# Altium schematic symbol library urover.SCHLIB: 209 symbols
Pins are listed as number, name and electrical type; pins without a type are passive.

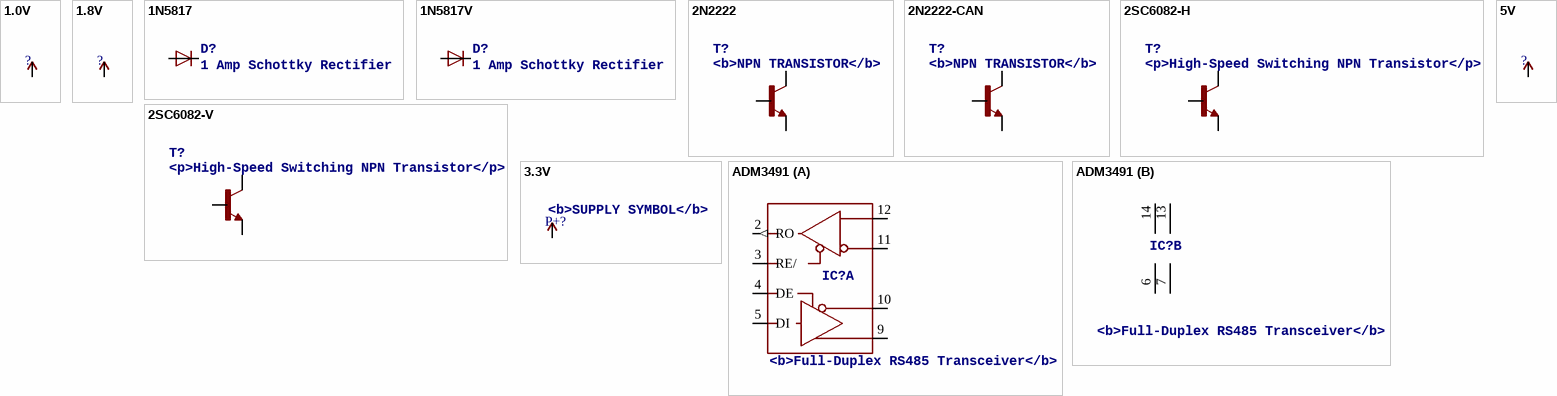
[diagram p0: symbols 1.0V to ADM3491]

## 1.0V
designator ?
pins: 1.0V (oe)

## 1.8V
designator ?
pins: 1.8V (oe)

## 1N5817
designator D?, comment 1 Amp Schottky Rectifier
footprint DO41-10
pins: A, C

## 1N5817V
designator D?, comment 1 Amp Schottky Rectifier
footprint DO41-V
pins: A, C

## 2N2222
designator T?, comment <b>NPN TRANSISTOR</b>
footprint TO92
pins: 1 C, 2 B, 3 E

## 2N2222-CAN
designator T?, comment <b>NPN TRANSISTOR</b>
footprint TO18
pins: 1 E, 2 B, 3 C

## 2SC6082-H
designator T?, comment <p>High-Speed Switching NPN Transistor</p>
footprint TO220BH
pins: D@1 C, G B, S E

## 2SC6082-V
designator T?, comment <p>High-Speed Switching NPN Transistor</p>
footprint TO220BV
pins: D C, G B, S E

## 3.3V
designator P+?, comment <b>SUPPLY SYMBOL</b>
pins: 3.3V (oe)

## 5V
designator ?
pins: 5V (oe)

## ADM3491
designator IC?, comment <b>Full-Duplex RS485 Transceiver</b>
footprint SO14
part A pins: 2 RO (out), 3 RE/, 4 DE, 5 DI, 9 Y, 10 Z, 11 B, 12 A
part B pins: 6 GND (power), 7 GND (power), 13 VCC (power), 14 VCC (power)

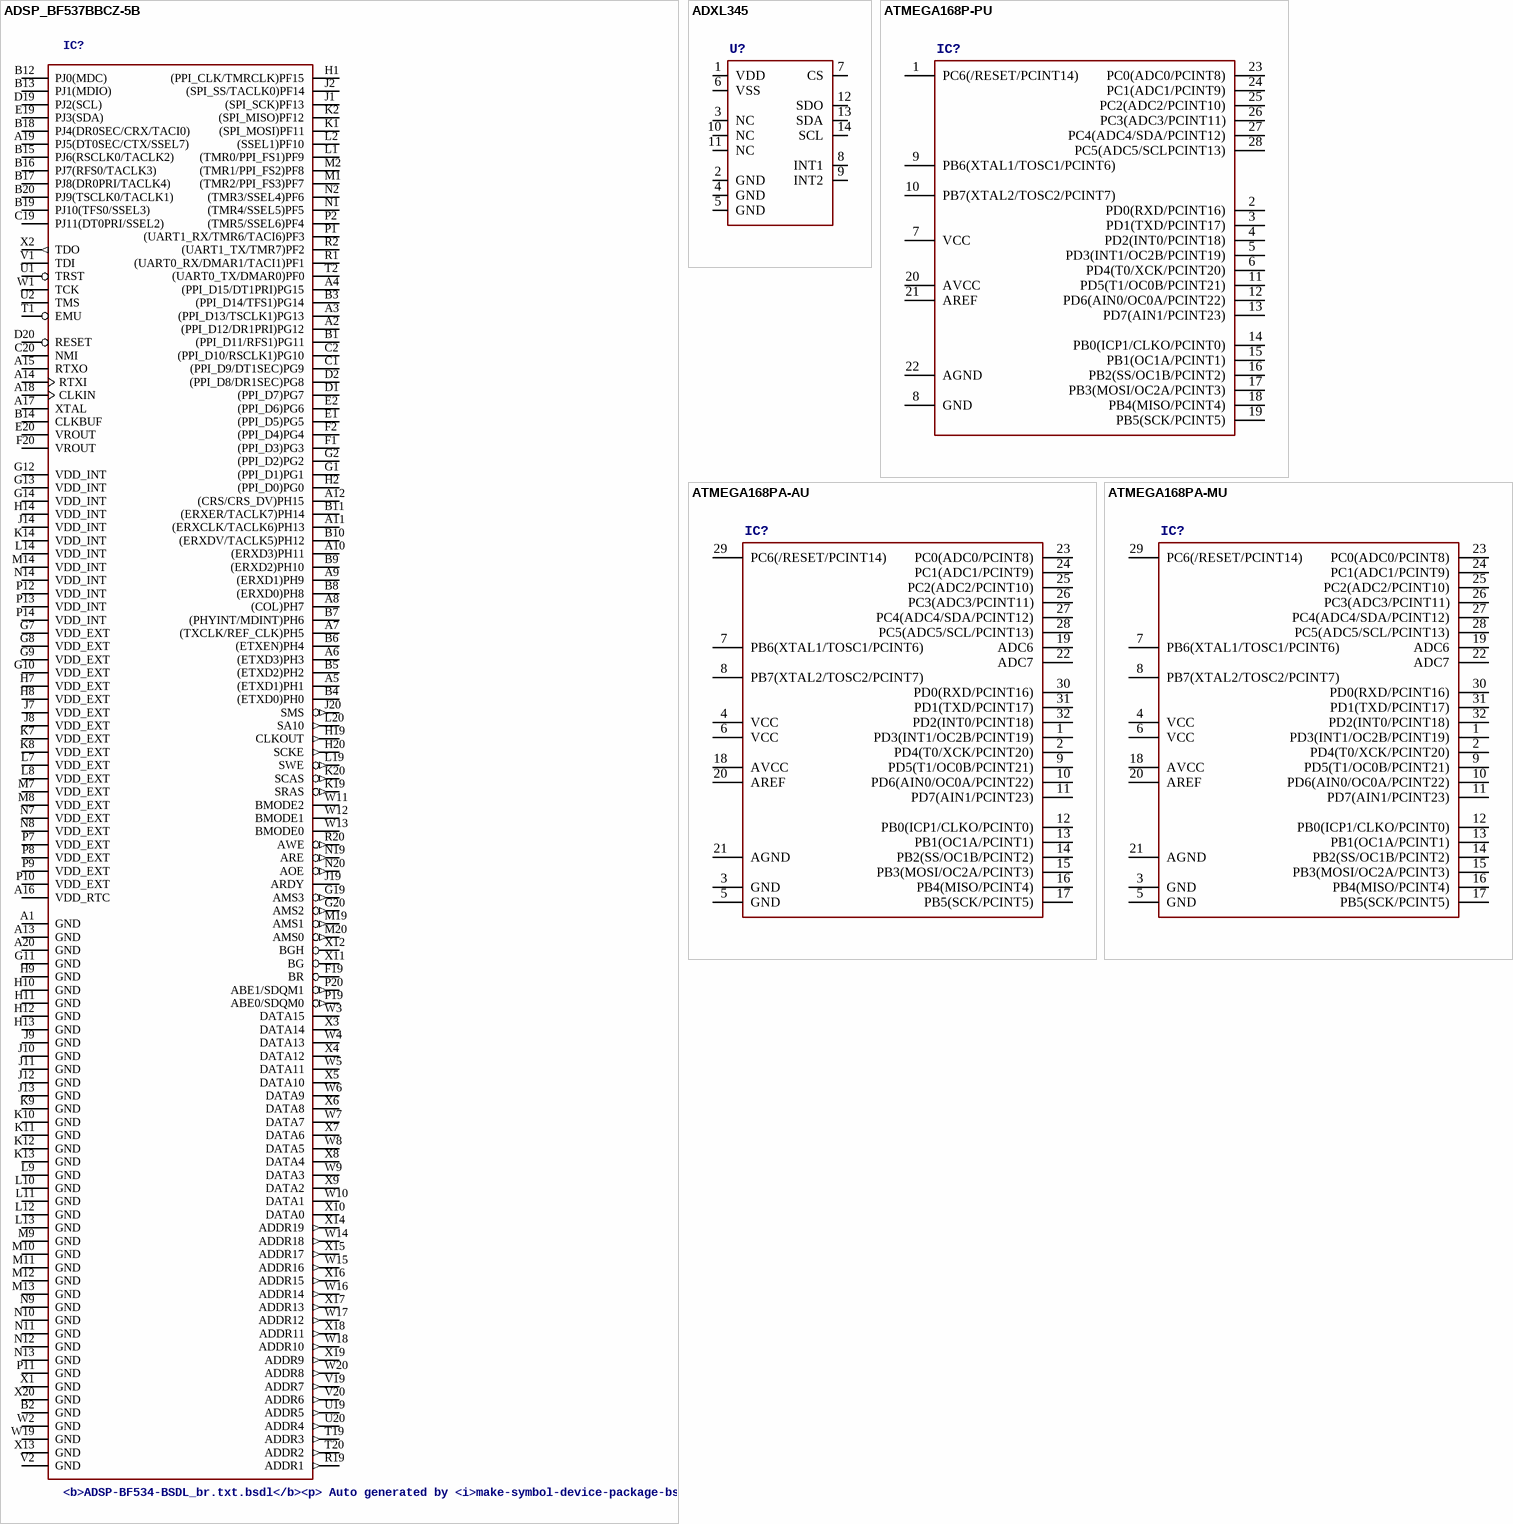
[diagram p1: symbols ADSP_BF537BBCZ-5B to ATMEGA168PA-MU]

## ADSP_BF537BBCZ-5B
designator IC?, comment <b>ADSP-BF534-BSDL_br.txt.bsdl</b><p> / Auto generated by <i>make-symbol-device-package-bsdl.ulp Rev. 8</i><br> / Source: http://www.analog.com/UploadedFiles/Data_Sheets/90140778ADSP_BF536_7_prd.pdf<br> / Source2: BSDL_br.txt as Email: &lt;adi-germany@analog.com&gt;
footprint BGA_208
pins: A1 GND (power), A2 (PPI_D12/DR1PRI)PG12, A3 (PPI_D13/TSCLK1)PG13, A4 (PPI_D15/DT1PRI)PG15, A5 (ETXD1)PH1, A6 (ETXD3)PH3, A7 (TXCLK/REF_CLK)PH5, A8 (COL)PH7, A9 (ERXD1)PH9, A10 (ERXD3)PH11, A11 (ERXCLK/TACLK6)PH13, A12 (CRS/CRS_DV)PH15, A13 GND (power), A14 RTXI (power), A15 RTXO (power), A16 VDD_RTC (power), A17 XTAL (power), A18 CLKIN (power), A19 PJ5(DT0SEC/CTX/SSEL7), A20 GND (power), B1 (PPI_D11/RFS1)PG11, B2 GND (power), B3 (PPI_D14/TFS1)PG14, B4 (ETXD0)PH0, B5 (ETXD2)PH2, B6 (ETXEN)PH4, B7 (PHYINT/MDINT)PH6, B8 (ERXD0)PH8, B9 (ERXD2)PH10, B10 (ERXDV/TACLK5)PH12, B11 (ERXER/TACLK7)PH14, B12 PJ0(MDC), B13 PJ1(MDIO), B14 CLKBUF (power), B15 PJ6(RSCLK0/TACLK2), B16 PJ7(RFS0/TACLK3), B17 PJ8(DR0PRI/TACLK4), B18 PJ4(DR0SEC/CRX/TACI0), B19 PJ10(TFS0/SSEL3), B20 PJ9(TSCLK0/TACLK1), C1 (PPI_D9/DT1SEC)PG9, C2 (PPI_D10/RSCLK1)PG10, C19 PJ11(DT0PRI/SSEL2), C20 NMI, D1 (PPI_D7)PG7, D2 (PPI_D8/DR1SEC)PG8, D19 PJ2(SCL), D20 RESET, E1 (PPI_D5)PG5, E2 (PPI_D6)PG6, E19 PJ3(SDA), E20 VROUT (power), F1 (PPI_D3)PG3, F2 (PPI_D4)PG4, F19 BR, F20 VROUT (power), G1 (PPI_D1)PG1, G2 (PPI_D2)PG2, G7 VDD_EXT (power), G8 VDD_EXT (power), G9 VDD_EXT (power), G10 VDD_EXT (power), G11 GND (power), G12 VDD_INT (power), G13 VDD_INT (power), G14 VDD_INT (power), G19 AMS3 (out), G20 AMS2 (out), H1 (PPI_CLK/TMRCLK)PF15, H2 (PPI_D0)PG0, H7 VDD_EXT (power), H8 VDD_EXT (power), H9 GND (power), H10 GND (power), H11 GND (power), H12 GND (power), H13 GND (power), H14 VDD_INT (power), H19 CLKOUT (out), H20 SCKE (out), J1 (SPI_SCK)PF13, J2 (SPI_SS/TACLK0)PF14, J7 VDD_EXT (power), J8 VDD_EXT (power), J9 GND (power), J10 GND (power), J11 GND (power), J12 GND (power), J13 GND (power), J14 VDD_INT (power), J19 ARDY, J20 SMS (out), K1 (SPI_MOSI)PF11, K2 (SPI_MISO)PF12, K7 VDD_EXT (power), K8 VDD_EXT (power), K9 GND (power), K10 GND (power), K11 GND (power), K12 GND (power), K13 GND (power), K14 VDD_INT (power), K19 SRAS (out), K20 SCAS (out), L1 (TMR0/PPI_FS1)PF9, L2 (SSEL1)PF10, L7 VDD_EXT (power), L8 VDD_EXT (power), L9 GND (power), L10 GND (power), L11 GND (power), L12 GND (power), L13 GND (power), L14 VDD_INT (power), L19 SWE (out), L20 SA10 (out), M1 (TMR2/PPI_FS3)PF7, M2 (TMR1/PPI_FS2)PF8, M7 VDD_EXT (power), M8 VDD_EXT (power), M9 GND (power), M10 GND (power), M11 GND (power), M12 GND (power), M13 GND (power), M14 VDD_INT (power), M19 AMS1 (out), M20 AMS0 (out), N1 (TMR4/SSEL5)PF5, N2 (TMR3/SSEL4)PF6, N7 VDD_EXT (power), N8 VDD_EXT (power), N9 GND (power), N10 GND (power), N11 GND (power), N12 GND (power), N13 GND (power), N14 VDD_INT (power), N19 ARE (out), N20 AOE (out), P1 (UART1_RX/TMR6/TACI6)PF3, P2 (TMR5/SSEL6)PF4, P7 VDD_EXT (power), P8 VDD_EXT (power), P9 VDD_EXT (power), P10 VDD_EXT (power), P11 GND (power), P12 VDD_INT (power), P13 VDD_INT (power), P14 VDD_INT (power), P19 ABE0/SDQM0 (out), P20 ABE1/SDQM1 (out), R1 (UART0_RX/DMAR1/TACI1)PF1, R2 (UART1_TX/TMR7)PF2, R19 ADDR1 (out), R20 AWE (out), T1 EMU (power), T2 (UART0_TX/DMAR0)PF0, T19 ADDR3 (out), T20 ADDR2 (out), U1 TRST, U2 TMS, U19 ADDR5 (out), U20 ADDR4 (out), V1 TDI, V2 GND (power), V19 ADDR7 (out), V20 ADDR6 (out), W1 TCK, W2 GND (power), W3 DATA15, W4 DATA13, W5 DATA11, W6 DATA9, W7 DATA7, W8 DATA5, W9 DATA3, W10 DATA1, W11 BMODE2, W12 BMODE1, W13 BMODE0, W14 ADDR18 (out), W15 ADDR16 (out), W16 ADDR14 (out), W17 ADDR12 (out), W18 ADDR10 (out), W19 GND (power), W20 ADDR8 (out), X1 GND (power), X2 TDO (out), X3 DATA14, X4 DATA12, X5 DATA10, X6 DATA8, X7 DATA6, X8 DATA4, X9 DATA2, X10 DATA0, X11 BG (hiz), X12 BGH (hiz), X13 GND (power), X14 ADDR19 (out), X15 ADDR17 (out), X16 ADDR15 (out), X17 ADDR13 (out), X18 ADDR11 (out), X19 ADDR9 (out), X20 GND (power)

## ADXL345
designator U?
footprint LGA14
pins: 1 VDD, 2 GND, 3 NC, 4 GND, 5 GND, 6 VSS, 7 CS, 8 INT1, 9 INT2, 10 NC, 11 NC, 12 SDO, 13 SDA, 14 SCL

## ATMEGA168P-PU
designator IC?
footprint DIL28-3
pins: 1 PC6(/RESET/PCINT14), 2 PD0(RXD/PCINT16), 3 PD1(TXD/PCINT17), 4 PD2(INT0/PCINT18), 5 PD3(INT1/OC2B/PCINT19), 6 PD4(T0/XCK/PCINT20), 7 VCC (power), 8 GND (power), 9 PB6(XTAL1/TOSC1/PCINT6), 10 PB7(XTAL2/TOSC2/PCINT7), 11 PD5(T1/OC0B/PCINT21), 12 PD6(AIN0/OC0A/PCINT22), 13 PD7(AIN1/PCINT23), 14 PB0(ICP1/CLKO/PCINT0), 15 PB1(OC1A/PCINT1), 16 PB2(SS/OC1B/PCINT2), 17 PB3(MOSI/OC2A/PCINT3), 18 PB4(MISO/PCINT4), 19 PB5(SCK/PCINT5), 20 AVCC, 21 AREF, 22 AGND (power), 23 PC0(ADC0/PCINT8), 24 PC1(ADC1/PCINT9), 25 PC2(ADC2/PCINT10), 26 PC3(ADC3/PCINT11), 27 PC4(ADC4/SDA/PCINT12), 28 PC5(ADC5/SCLPCINT13)

## ATMEGA168PA-AU
designator IC?
footprint TQFP32-08
pins: 1 PD3(INT1/OC2B/PCINT19), 2 PD4(T0/XCK/PCINT20), 3 GND (power), 4 VCC (power), 5 GND (power), 6 VCC (power), 7 PB6(XTAL1/TOSC1/PCINT6), 8 PB7(XTAL2/TOSC2/PCINT7), 9 PD5(T1/OC0B/PCINT21), 10 PD6(AIN0/OC0A/PCINT22), 11 PD7(AIN1/PCINT23), 12 PB0(ICP1/CLKO/PCINT0), 13 PB1(OC1A/PCINT1), 14 PB2(SS/OC1B/PCINT2), 15 PB3(MOSI/OC2A/PCINT3), 16 PB4(MISO/PCINT4), 17 PB5(SCK/PCINT5), 18 AVCC, 19 ADC6, 20 AREF, 21 AGND (power), 22 ADC7, 23 PC0(ADC0/PCINT8), 24 PC1(ADC1/PCINT9), 25 PC2(ADC2/PCINT10), 26 PC3(ADC3/PCINT11), 27 PC4(ADC4/SDA/PCINT12), 28 PC5(ADC5/SCL/PCINT13), 29 PC6(/RESET/PCINT14), 30 PD0(RXD/PCINT16), 31 PD1(TXD/PCINT17), 32 PD2(INT0/PCINT18)

## ATMEGA168PA-MU
designator IC?
footprint MLF32
pins: 1 PD3(INT1/OC2B/PCINT19), 2 PD4(T0/XCK/PCINT20), 3 GND (power), 4 VCC (power), 5 GND (power), 6 VCC (power), 7 PB6(XTAL1/TOSC1/PCINT6), 8 PB7(XTAL2/TOSC2/PCINT7), 9 PD5(T1/OC0B/PCINT21), 10 PD6(AIN0/OC0A/PCINT22), 11 PD7(AIN1/PCINT23), 12 PB0(ICP1/CLKO/PCINT0), 13 PB1(OC1A/PCINT1), 14 PB2(SS/OC1B/PCINT2), 15 PB3(MOSI/OC2A/PCINT3), 16 PB4(MISO/PCINT4), 17 PB5(SCK/PCINT5), 18 AVCC, 19 ADC6, 20 AREF, 21 AGND (power), 22 ADC7, 23 PC0(ADC0/PCINT8), 24 PC1(ADC1/PCINT9), 25 PC2(ADC2/PCINT10), 26 PC3(ADC3/PCINT11), 27 PC4(ADC4/SDA/PCINT12), 28 PC5(ADC5/SCL/PCINT13), 29 PC6(/RESET/PCINT14), 30 PD0(RXD/PCINT16), 31 PD1(TXD/PCINT17), 32 PD2(INT0/PCINT18)

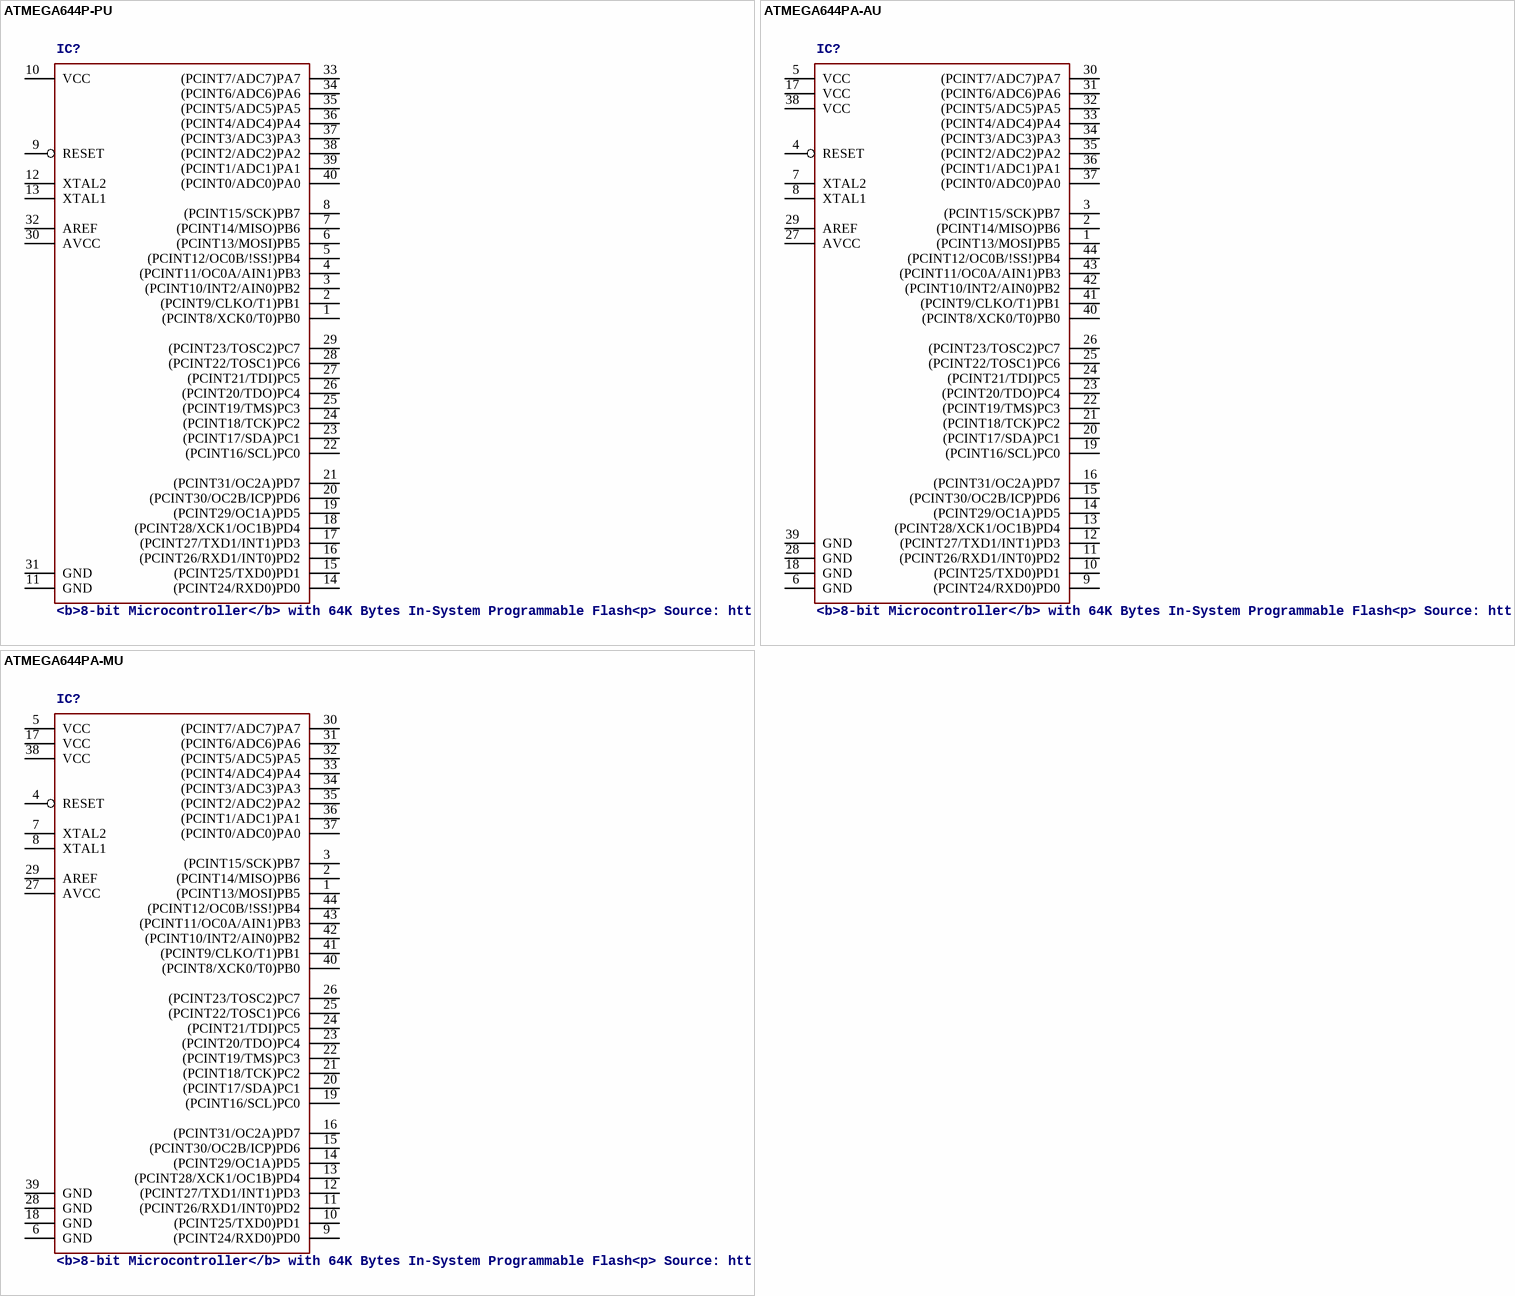
[diagram p2: symbols ATMEGA644P-PU to ATMEGA644PA-MU]

## ATMEGA644P-PU
designator IC?, comment <b>8-bit Microcontroller</b> with 64K Bytes In-System Programmable Flash<p> / Source: http://www.atmel.com/dyn/resources/prod_documents/doc2593.pdf
footprint DIL40
pins: 1 (PCINT8/XCK0/T0)PB0, 2 (PCINT9/CLKO/T1)PB1, 3 (PCINT10/INT2/AIN0)PB2, 4 (PCINT11/OC0A/AIN1)PB3, 5 (PCINT12/OC0B/!SS!)PB4, 6 (PCINT13/MOSI)PB5, 7 (PCINT14/MISO)PB6, 8 (PCINT15/SCK)PB7, 9 RESET, 10 VCC (power), 11 GND (power), 12 XTAL2, 13 XTAL1, 14 (PCINT24/RXD0)PD0, 15 (PCINT25/TXD0)PD1, 16 (PCINT26/RXD1/INT0)PD2, 17 (PCINT27/TXD1/INT1)PD3, 18 (PCINT28/XCK1/OC1B)PD4, 19 (PCINT29/OC1A)PD5, 20 (PCINT30/OC2B/ICP)PD6, 21 (PCINT31/OC2A)PD7, 22 (PCINT16/SCL)PC0, 23 (PCINT17/SDA)PC1, 24 (PCINT18/TCK)PC2, 25 (PCINT19/TMS)PC3, 26 (PCINT20/TDO)PC4, 27 (PCINT21/TDI)PC5, 28 (PCINT22/TOSC1)PC6, 29 (PCINT23/TOSC2)PC7, 30 AVCC (power), 31 GND (power), 32 AREF, 33 (PCINT7/ADC7)PA7, 34 (PCINT6/ADC6)PA6, 35 (PCINT5/ADC5)PA5, 36 (PCINT4/ADC4)PA4, 37 (PCINT3/ADC3)PA3, 38 (PCINT2/ADC2)PA2, 39 (PCINT1/ADC1)PA1, 40 (PCINT0/ADC0)PA0

## ATMEGA644PA-AU
designator IC?, comment <b>8-bit Microcontroller</b> with 64K Bytes In-System Programmable Flash<p> / Source: http://www.atmel.com/dyn/resources/prod_documents/doc2593.pdf
footprint TQFP44
pins: 1 (PCINT13/MOSI)PB5, 2 (PCINT14/MISO)PB6, 3 (PCINT15/SCK)PB7, 4 RESET, 5 VCC (power), 6 GND (power), 7 XTAL2, 8 XTAL1, 9 (PCINT24/RXD0)PD0, 10 (PCINT25/TXD0)PD1, 11 (PCINT26/RXD1/INT0)PD2, 12 (PCINT27/TXD1/INT1)PD3, 13 (PCINT28/XCK1/OC1B)PD4, 14 (PCINT29/OC1A)PD5, 15 (PCINT30/OC2B/ICP)PD6, 16 (PCINT31/OC2A)PD7, 17 VCC (power), 18 GND (power), 19 (PCINT16/SCL)PC0, 20 (PCINT17/SDA)PC1, 21 (PCINT18/TCK)PC2, 22 (PCINT19/TMS)PC3, 23 (PCINT20/TDO)PC4, 24 (PCINT21/TDI)PC5, 25 (PCINT22/TOSC1)PC6, 26 (PCINT23/TOSC2)PC7, 27 AVCC (power), 28 GND (power), 29 AREF, 30 (PCINT7/ADC7)PA7, 31 (PCINT6/ADC6)PA6, 32 (PCINT5/ADC5)PA5, 33 (PCINT4/ADC4)PA4, 34 (PCINT3/ADC3)PA3, 35 (PCINT2/ADC2)PA2, 36 (PCINT1/ADC1)PA1, 37 (PCINT0/ADC0)PA0, 38 VCC (power), 39 GND (power), 40 (PCINT8/XCK0/T0)PB0, 41 (PCINT9/CLKO/T1)PB1, 42 (PCINT10/INT2/AIN0)PB2, 43 (PCINT11/OC0A/AIN1)PB3, 44 (PCINT12/OC0B/!SS!)PB4

## ATMEGA644PA-MU
designator IC?, comment <b>8-bit Microcontroller</b> with 64K Bytes In-System Programmable Flash<p> / Source: http://www.atmel.com/dyn/resources/prod_documents/doc2593.pdf
footprint QFN44ML8X8
pins: 1 (PCINT13/MOSI)PB5, 2 (PCINT14/MISO)PB6, 3 (PCINT15/SCK)PB7, 4 RESET, 5 VCC (power), 6 GND (power), 7 XTAL2, 8 XTAL1, 9 (PCINT24/RXD0)PD0, 10 (PCINT25/TXD0)PD1, 11 (PCINT26/RXD1/INT0)PD2, 12 (PCINT27/TXD1/INT1)PD3, 13 (PCINT28/XCK1/OC1B)PD4, 14 (PCINT29/OC1A)PD5, 15 (PCINT30/OC2B/ICP)PD6, 16 (PCINT31/OC2A)PD7, 17 VCC (power), 18 GND (power), 19 (PCINT16/SCL)PC0, 20 (PCINT17/SDA)PC1, 21 (PCINT18/TCK)PC2, 22 (PCINT19/TMS)PC3, 23 (PCINT20/TDO)PC4, 24 (PCINT21/TDI)PC5, 25 (PCINT22/TOSC1)PC6, 26 (PCINT23/TOSC2)PC7, 27 AVCC (power), 28 GND (power), 29 AREF, 30 (PCINT7/ADC7)PA7, 31 (PCINT6/ADC6)PA6, 32 (PCINT5/ADC5)PA5, 33 (PCINT4/ADC4)PA4, 34 (PCINT3/ADC3)PA3, 35 (PCINT2/ADC2)PA2, 36 (PCINT1/ADC1)PA1, 37 (PCINT0/ADC0)PA0, 38 VCC (power), 39 GND (power), 40 (PCINT8/XCK0/T0)PB0, 41 (PCINT9/CLKO/T1)PB1, 42 (PCINT10/INT2/AIN0)PB2, 43 (PCINT11/OC0A/AIN1)PB3, 44 (PCINT12/OC0B/!SS!)PB4

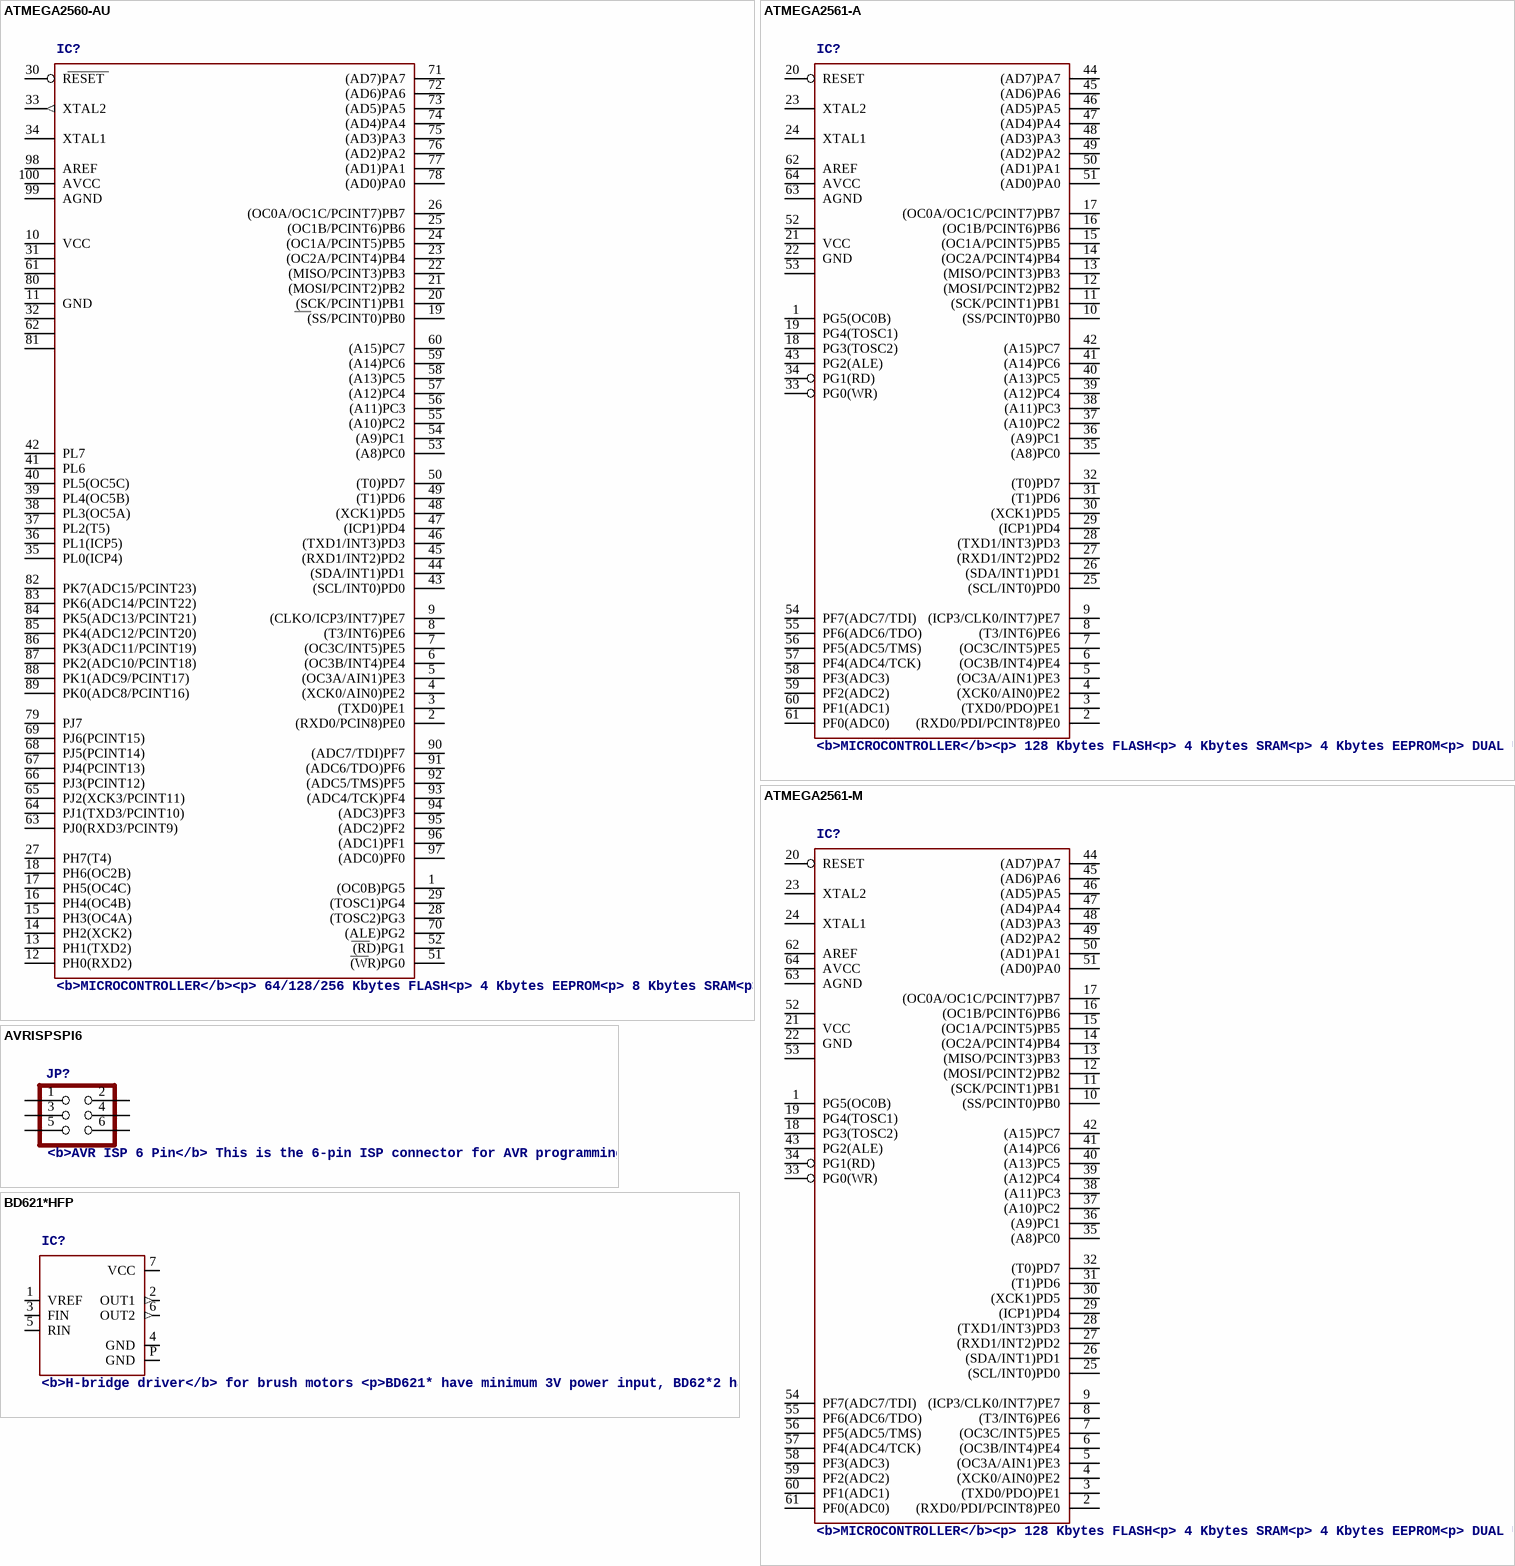
[diagram p3: symbols ATMEGA2560-AU to BD621*HFP]

## ATMEGA2560-AU
designator IC?, comment <b>MICROCONTROLLER</b><p> / 64/128/256 Kbytes FLASH<p> / 4 Kbytes EEPROM<p> / 8 Kbytes SRAM<p> / 86 General Purpose I/O pins<p> / 12-channels16-bit PWM<p> / 4 x Serial USARTs<p> / 16-channels 10-bit A/D<p>
footprint TQFP100
pins: 1 (OC0B)PG5, 2 (RXD0/PCIN8)PE0, 3 (TXD0)PE1, 4 (XCK0/AIN0)PE2, 5 (OC3A/AIN1)PE3, 6 (OC3B/INT4)PE4, 7 (OC3C/INT5)PE5, 8 (T3/INT6)PE6, 9 (CLKO/ICP3/INT7)PE7, 10 VCC (power), 11 GND (power), 12 PH0(RXD2), 13 PH1(TXD2), 14 PH2(XCK2), 15 PH3(OC4A), 16 PH4(OC4B), 17 PH5(OC4C), 18 PH6(OC2B), 19 (SS/PCINT0)PB0, 20 (SCK/PCINT1)PB1, 21 (MOSI/PCINT2)PB2, 22 (MISO/PCINT3)PB3, 23 (OC2A/PCINT4)PB4, 24 (OC1A/PCINT5)PB5, 25 (OC1B/PCINT6)PB6, 26 (OC0A/OC1C/PCINT7)PB7, 27 PH7(T4), 28 (TOSC2)PG3, 29 (TOSC1)PG4, 30 RESET, 31 VCC1 (power), 32 GND1 (power), 33 XTAL2 (out), 34 XTAL1, 35 PL0(ICP4), 36 PL1(ICP5), 37 PL2(T5), 38 PL3(OC5A), 39 PL4(OC5B), 40 PL5(OC5C), 41 PL6, 42 PL7, 43 (SCL/INT0)PD0, 44 (SDA/INT1)PD1, 45 (RXD1/INT2)PD2, 46 (TXD1/INT3)PD3, 47 (ICP1)PD4, 48 (XCK1)PD5, 49 (T1)PD6, 50 (T0)PD7, 51 (WR)PG0, 52 (RD)PG1, 53 (A8)PC0, 54 (A9)PC1, 55 (A10)PC2, 56 (A11)PC3, 57 (A12)PC4, 58 (A13)PC5, 59 (A14)PC6, 60 (A15)PC7, 61 VCC2 (power), 62 GND2 (power), 63 PJ0(RXD3/PCINT9), 64 PJ1(TXD3/PCINT10), 65 PJ2(XCK3/PCINT11), 66 PJ3(PCINT12), 67 PJ4(PCINT13), 68 PJ5(PCINT14), 69 PJ6(PCINT15), 70 (ALE)PG2, 71 (AD7)PA7, 72 (AD6)PA6, 73 (AD5)PA5, 74 (AD4)PA4, 75 (AD3)PA3, 76 (AD2)PA2, 77 (AD1)PA1, 78 (AD0)PA0, 79 PJ7, 80 VCC3 (power), 81 GND3 (power), 82 PK7(ADC15/PCINT23), 83 PK6(ADC14/PCINT22), 84 PK5(ADC13/PCINT21), 85 PK4(ADC12/PCINT20), 86 PK3(ADC11/PCINT19), 87 PK2(ADC10/PCINT18), 88 PK1(ADC9/PCINT17), 89 PK0(ADC8/PCINT16), 90 (ADC7/TDI)PF7, 91 (ADC6/TDO)PF6, 92 (ADC5/TMS)PF5, 93 (ADC4/TCK)PF4, 94 (ADC3)PF3, 95 (ADC2)PF2, 96 (ADC1)PF1, 97 (ADC0)PF0, 98 AREF, 99 AGND (power), 100 AVCC (power)

## ATMEGA2561-A
designator IC?, comment <b>MICROCONTROLLER</b><p> / 128 Kbytes FLASH<p> / 4 Kbytes SRAM<p> / 4 Kbytes EEPROM<p> / DUAL USART<p> / 8-channel 10 bit ADC<p>
footprint TQFP64
pins: 1 PG5(OC0B), 2 (RXD0/PDI/PCINT8)PE0, 3 (TXD0/PDO)PE1, 4 (XCK0/AIN0)PE2, 5 (OC3A/AIN1)PE3, 6 (OC3B/INT4)PE4, 7 (OC3C/INT5)PE5, 8 (T3/INT6)PE6, 9 (ICP3/CLK0/INT7)PE7, 10 (SS/PCINT0)PB0, 11 (SCK/PCINT1)PB1, 12 (MOSI/PCINT2)PB2, 13 (MISO/PCINT3)PB3, 14 (OC2A/PCINT4)PB4, 15 (OC1A/PCINT5)PB5, 16 (OC1B/PCINT6)PB6, 17 (OC0A/OC1C/PCINT7)PB7, 18 PG3(TOSC2), 19 PG4(TOSC1), 20 RESET, 21 VCC (power), 22 GND (power), 23 XTAL2, 24 XTAL1, 25 (SCL/INT0)PD0, 26 (SDA/INT1)PD1, 27 (RXD1/INT2)PD2, 28 (TXD1/INT3)PD3, 29 (ICP1)PD4, 30 (XCK1)PD5, 31 (T1)PD6, 32 (T0)PD7, 33 PG0(WR), 34 PG1(RD), 35 (A8)PC0, 36 (A9)PC1, 37 (A10)PC2, 38 (A11)PC3, 39 (A12)PC4, 40 (A13)PC5, 41 (A14)PC6, 42 (A15)PC7, 43 PG2(ALE), 44 (AD7)PA7, 45 (AD6)PA6, 46 (AD5)PA5, 47 (AD4)PA4, 48 (AD3)PA3, 49 (AD2)PA2, 50 (AD1)PA1, 51 (AD0)PA0, 52 VCC1 (power), 53 GND1 (power), 54 PF7(ADC7/TDI), 55 PF6(ADC6/TDO), 56 PF5(ADC5/TMS), 57 PF4(ADC4/TCK), 58 PF3(ADC3), 59 PF2(ADC2), 60 PF1(ADC1), 61 PF0(ADC0), 62 AREF, 63 AGND, 64 AVCC

## ATMEGA2561-M
designator IC?, comment <b>MICROCONTROLLER</b><p> / 128 Kbytes FLASH<p> / 4 Kbytes SRAM<p> / 4 Kbytes EEPROM<p> / DUAL USART<p> / 8-channel 10 bit ADC<p>
footprint MLF64
pins: 1 PG5(OC0B), 2 (RXD0/PDI/PCINT8)PE0, 3 (TXD0/PDO)PE1, 4 (XCK0/AIN0)PE2, 5 (OC3A/AIN1)PE3, 6 (OC3B/INT4)PE4, 7 (OC3C/INT5)PE5, 8 (T3/INT6)PE6, 9 (ICP3/CLK0/INT7)PE7, 10 (SS/PCINT0)PB0, 11 (SCK/PCINT1)PB1, 12 (MOSI/PCINT2)PB2, 13 (MISO/PCINT3)PB3, 14 (OC2A/PCINT4)PB4, 15 (OC1A/PCINT5)PB5, 16 (OC1B/PCINT6)PB6, 17 (OC0A/OC1C/PCINT7)PB7, 18 PG3(TOSC2), 19 PG4(TOSC1), 20 RESET, 21 VCC (power), 22 GND (power), 23 XTAL2, 24 XTAL1, 25 (SCL/INT0)PD0, 26 (SDA/INT1)PD1, 27 (RXD1/INT2)PD2, 28 (TXD1/INT3)PD3, 29 (ICP1)PD4, 30 (XCK1)PD5, 31 (T1)PD6, 32 (T0)PD7, 33 PG0(WR), 34 PG1(RD), 35 (A8)PC0, 36 (A9)PC1, 37 (A10)PC2, 38 (A11)PC3, 39 (A12)PC4, 40 (A13)PC5, 41 (A14)PC6, 42 (A15)PC7, 43 PG2(ALE), 44 (AD7)PA7, 45 (AD6)PA6, 46 (AD5)PA5, 47 (AD4)PA4, 48 (AD3)PA3, 49 (AD2)PA2, 50 (AD1)PA1, 51 (AD0)PA0, 52 VCC1 (power), 53 GND1 (power), 54 PF7(ADC7/TDI), 55 PF6(ADC6/TDO), 56 PF5(ADC5/TMS), 57 PF4(ADC4/TCK), 58 PF3(ADC3), 59 PF2(ADC2), 60 PF1(ADC1), 61 PF0(ADC0), 62 AREF, 63 AGND, 64 AVCC

## AVRISPSPI6
designator JP?, comment <b>AVR ISP 6 Pin</b> / This is the 6-pin ISP connector for AVR programming.
footprint HEADER-2X3-ISP
pins: 1, 2, 3, 4, 5, 6

## BD621*HFP
designator IC?, comment <b>H-bridge driver</b> for brush motors / <p>BD621* have minimum 3V power input, BD62*2 have 2A current rating</p> / Source: http://www.rohm.com/products/databook/motor/pdf/bd623x_series-e.pdf
MPN: BD6231HFP-TR; MPN: BD6232HFP-TR; OC_FARNELL: unknown; OC_NEWARK: unknown; OC_FARNELL: 1712946; OC_NEWARK: 24R5626; OC_FARNELL: 1712947; OC_NEWARK: 24R5627
footprint HRP7
pins: 1 VREF, 2 OUT1 (out), 3 FIN, 4 GND (power), 5 RIN, 6 OUT2 (out), 7 VCC (power), P GND (power)

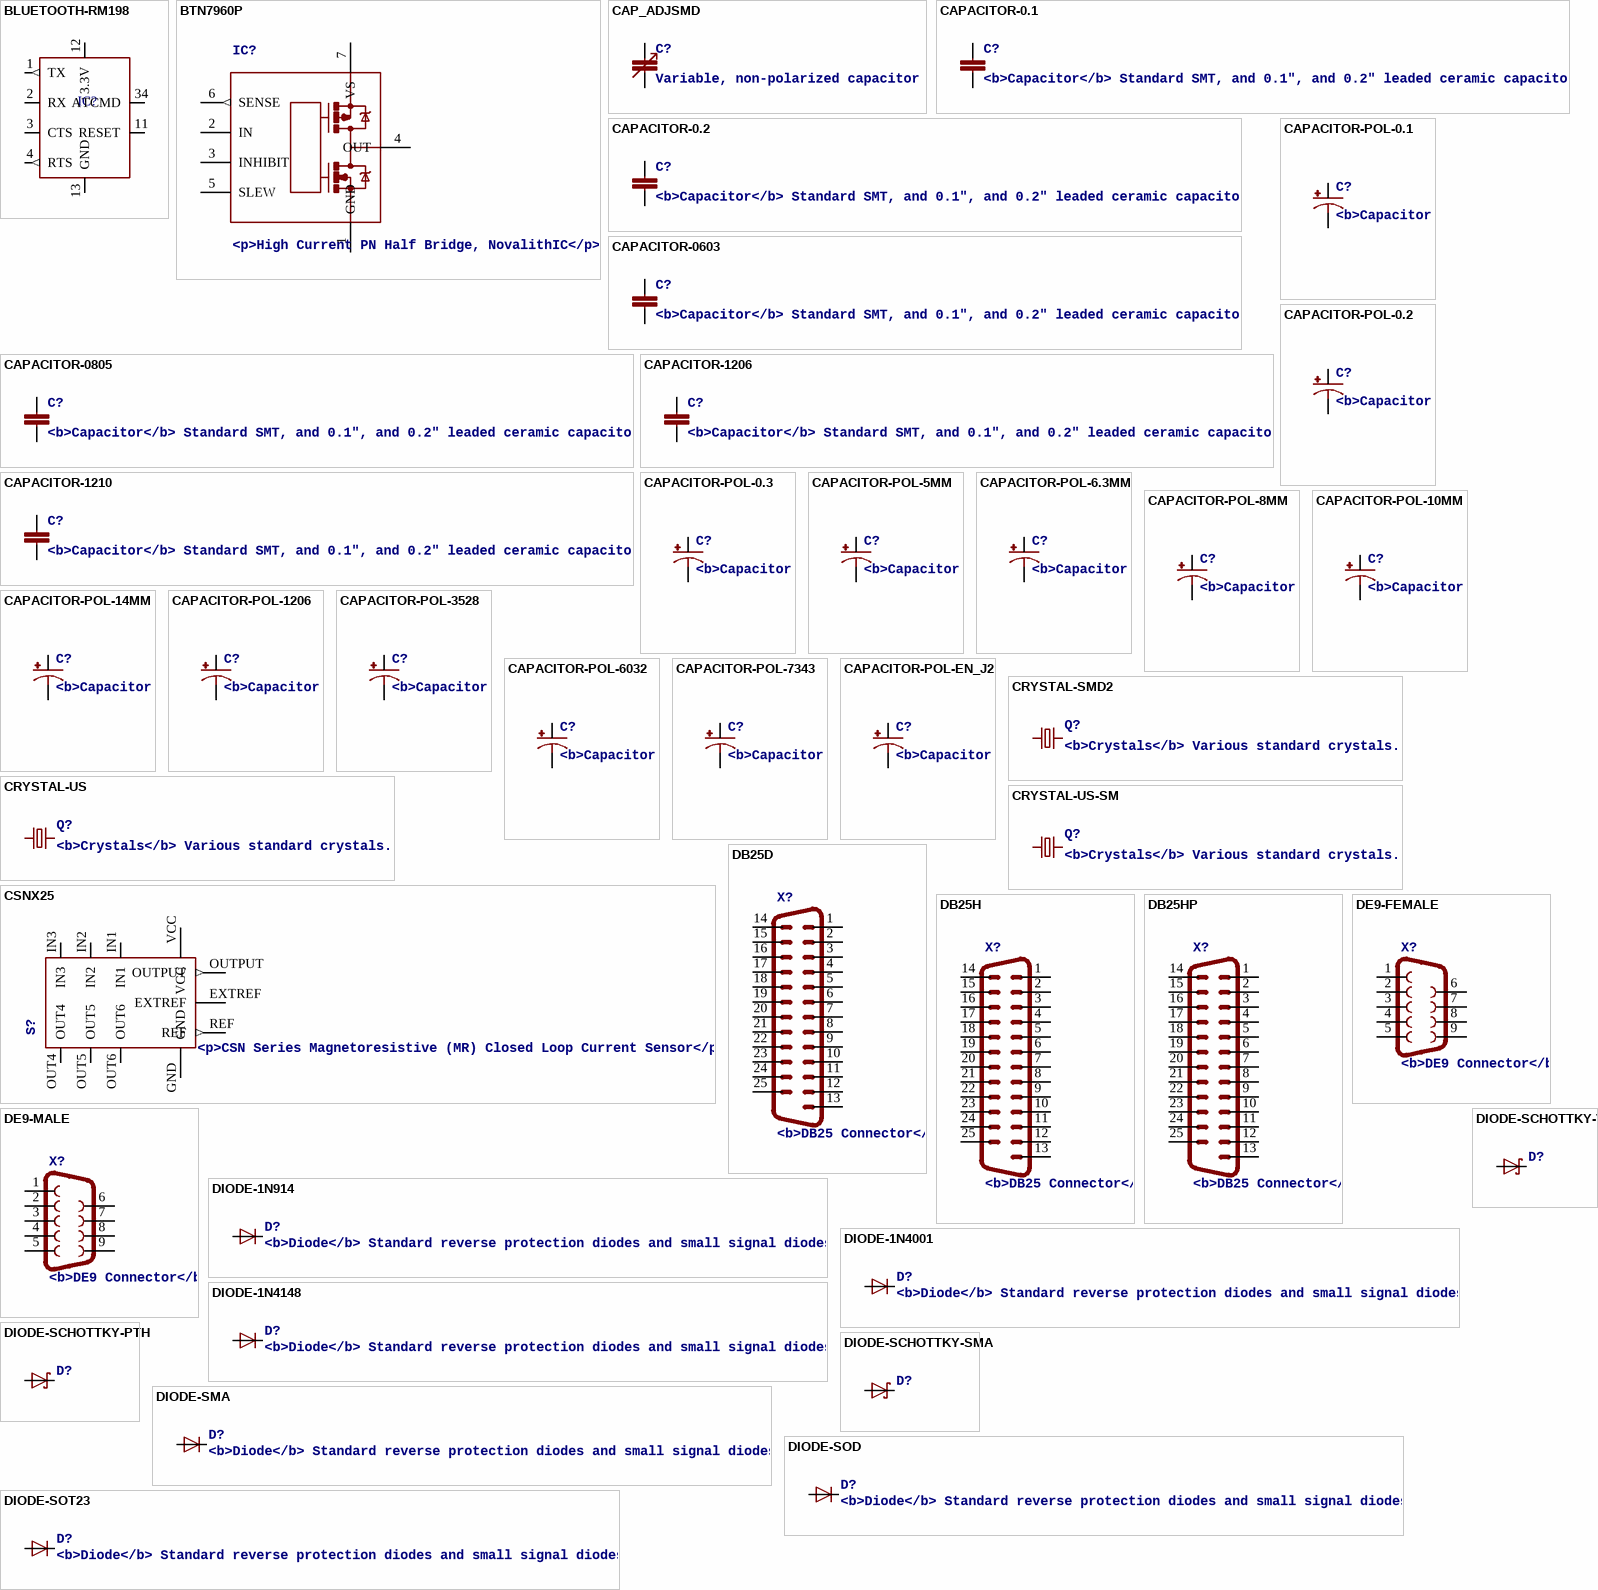
[diagram p4: symbols BLUETOOTH-RM198 to DIODE-SOT23]

## BLUETOOTH-RM198
designator IC?
footprint BLUETOOTH-RM198
pins: 1 TX (out), 2 RX, 3 CTS, 4 RTS (out), 11 RESET, 12 3.3V (power), 13 GND (power), 34 ATCMD

## BTN7960P
designator IC?, comment <p>High Current PN Half Bridge, NovalithIC</p>
footprint TO220-7
pins: 1 GND (power), 2 IN, 3 INHIBIT, 4 OUT, 5 SLEW, 6 SENSE (out), 7 VS (power)

## CAP_ADJSMD
designator C?, comment Variable, non-polarized capacitor
footprint CTZ3
pins: + 3, - 4

## CAPACITOR-0.1
designator C?, comment <b>Capacitor</b> / Standard SMT, and 0.1", and 0.2" leaded ceramic capacitors
footprint CAP-0.1
pins: 1, 2

## CAPACITOR-0.2
designator C?, comment <b>Capacitor</b> / Standard SMT, and 0.1", and 0.2" leaded ceramic capacitors
footprint CAP-0.2
pins: 1, 2

## CAPACITOR-0603
designator C?, comment <b>Capacitor</b> / Standard SMT, and 0.1", and 0.2" leaded ceramic capacitors
footprint 0603-CAP
pins: 1, 2

## CAPACITOR-0805
designator C?, comment <b>Capacitor</b> / Standard SMT, and 0.1", and 0.2" leaded ceramic capacitors
footprint 0805-CAP
pins: 1, 2

## CAPACITOR-1206
designator C?, comment <b>Capacitor</b> / Standard SMT, and 0.1", and 0.2" leaded ceramic capacitors
footprint 1206-CAP
pins: 1, 2

## CAPACITOR-1210
designator C?, comment <b>Capacitor</b> / Standard SMT, and 0.1", and 0.2" leaded ceramic capacitors
footprint 1210
pins: 1, 2

## CAPACITOR-POL-0.1
designator C?, comment <b>Capacitor Polarized</b> / These are standard SMD and PTH capacitors. Normally 47uF, 100uF, and 1000uF in electrolytic and tantalum varieties
footprint CAP-POL-0.1
pins: 1 +, 2 -

## CAPACITOR-POL-0.2
designator C?, comment <b>Capacitor Polarized</b> / These are standard SMD and PTH capacitors. Normally 47uF, 100uF, and 1000uF in electrolytic and tantalum varieties
footprint CAP-POL-0.2
pins: 1 +, 2 -

## CAPACITOR-POL-0.3
designator C?, comment <b>Capacitor Polarized</b> / These are standard SMD and PTH capacitors. Normally 47uF, 100uF, and 1000uF in electrolytic and tantalum varieties
footprint CAP-POL-0.3
pins: 1 +, 2 -

## CAPACITOR-POL-5MM
designator C?, comment <b>Capacitor Polarized</b> / These are standard SMD and PTH capacitors. Normally 47uF, 100uF, and 1000uF in electrolytic and tantalum varieties
footprint PANASONIC-C-5MM
pins: +, -

## CAPACITOR-POL-6.3MM
designator C?, comment <b>Capacitor Polarized</b> / These are standard SMD and PTH capacitors. Normally 47uF, 100uF, and 1000uF in electrolytic and tantalum varieties
footprint PANASONIC-D-6.3MM
pins: +, -

## CAPACITOR-POL-8MM
designator C?, comment <b>Capacitor Polarized</b> / These are standard SMD and PTH capacitors. Normally 47uF, 100uF, and 1000uF in electrolytic and tantalum varieties
footprint PANASONIC-E-8MM
pins: +, -

## CAPACITOR-POL-10MM
designator C?, comment <b>Capacitor Polarized</b> / These are standard SMD and PTH capacitors. Normally 47uF, 100uF, and 1000uF in electrolytic and tantalum varieties
footprint PANASONIC-G-10MM
pins: +, -

## CAPACITOR-POL-14MM
designator C?, comment <b>Capacitor Polarized</b> / These are standard SMD and PTH capacitors. Normally 47uF, 100uF, and 1000uF in electrolytic and tantalum varieties
footprint PANASONIC-H13-13MM
pins: +, -

## CAPACITOR-POL-1206
designator C?, comment <b>Capacitor Polarized</b> / These are standard SMD and PTH capacitors. Normally 47uF, 100uF, and 1000uF in electrolytic and tantalum varieties
footprint EIA3216-KIT
pins: A +, C -

## CAPACITOR-POL-3528
designator C?, comment <b>Capacitor Polarized</b> / These are standard SMD and PTH capacitors. Normally 47uF, 100uF, and 1000uF in electrolytic and tantalum varieties
footprint EIA3528-KIT
pins: A +, C -

## CAPACITOR-POL-6032
designator C?, comment <b>Capacitor Polarized</b> / These are standard SMD and PTH capacitors. Normally 47uF, 100uF, and 1000uF in electrolytic and tantalum varieties
footprint EIA6032
pins: P$1 +, P$2 -

## CAPACITOR-POL-7343
designator C?, comment <b>Capacitor Polarized</b> / These are standard SMD and PTH capacitors. Normally 47uF, 100uF, and 1000uF in electrolytic and tantalum varieties
footprint EIA7343
pins: A +, C -

## CAPACITOR-POL-EN_J2
designator C?, comment <b>Capacitor Polarized</b> / These are standard SMD and PTH capacitors. Normally 47uF, 100uF, and 1000uF in electrolytic and tantalum varieties
footprint EN_J2
pins: +, -

## CRYSTAL-SMD2
designator Q?, comment <b>Crystals</b> / Various standard crystals.
footprint SMD2
pins: 1, 2

## CRYSTAL-US
designator Q?, comment <b>Crystals</b> / Various standard crystals.
footprint HC49U-V
pins: 1, 2

## CRYSTAL-US-SM
designator Q?, comment <b>Crystals</b> / Various standard crystals.
footprint HC49UP
pins: 1, 2

## CSNX25
designator S?, comment <p>CSN Series Magnetoresistive (MR) Closed Loop Current Sensor</p>
footprint CSNX25
pins: EXTREF, GND (power), IN1, IN2, IN3, OUT4, OUT5, OUT6, OUTPUT (out), REF (out), VCC (power)

## DB25D
designator X?, comment <b>DB25 Connector</b> / Standard DB25 (D-Sub 25) serial or parallel connector.
footprint M25D
pins: 1, 2, 3, 4, 5, 6, 7, 8, 9, 10, 11, 12, 13, 14, 15, 16, 17, 18, 19, 20, 21, 22, 23, 24, 25

## DB25H
designator X?, comment <b>DB25 Connector</b> / Standard DB25 (D-Sub 25) serial or parallel connector.
footprint M25H
pins: 1, 2, 3, 4, 5, 6, 7, 8, 9, 10, 11, 12, 13, 14, 15, 16, 17, 18, 19, 20, 21, 22, 23, 24, 25

## DB25HP
designator X?, comment <b>DB25 Connector</b> / Standard DB25 (D-Sub 25) serial or parallel connector.
footprint M25HP
pins: 1, 2, 3, 4, 5, 6, 7, 8, 9, 10, 11, 12, 13, 14, 15, 16, 17, 18, 19, 20, 21, 22, 23, 24, 25

## DE9-FEMALE
designator X?, comment <b>DE9 Connector</b> / Standard DE9 (D-Sub 9) serial connector. Can be used for CAN bus as well as RS485 and RS232.
footprint DE9-FEMALE
pins: 1, 2, 3, 4, 5, 6, 7, 8, 9

## DE9-MALE
designator X?, comment <b>DE9 Connector</b> / Standard DE9 (D-Sub 9) serial connector. Can be used for CAN bus as well as RS485 and RS232.
footprint DE9-MALE
pins: 1, 2, 3, 4, 5, 6, 7, 8, 9

## DIODE-1N914
designator D?, comment <b>Diode</b> / Standard reverse protection diodes and small signal diodes.
footprint DIODE-1N4148
pins: A, C

## DIODE-1N4001
designator D?, comment <b>Diode</b> / Standard reverse protection diodes and small signal diodes.
footprint DIODE-1N4001
pins: A, C

## DIODE-1N4148
designator D?, comment <b>Diode</b> / Standard reverse protection diodes and small signal diodes.
footprint DIODE-1N4148
pins: A, C

## DIODE-SCHOTTKY-PTH
designator D?
footprint DO41-10
pins: A, C

## DIODE-SCHOTTKY-SMA
designator D?
footprint SMA-DIODE
pins: A, C

## DIODE-SCHOTTKY-V
designator D?
footprint DO41-V
pins: A, C

## DIODE-SMA
designator D?, comment <b>Diode</b> / Standard reverse protection diodes and small signal diodes.
footprint DIODE-SMA
pins: A, C

## DIODE-SOD
designator D?, comment <b>Diode</b> / Standard reverse protection diodes and small signal diodes.
footprint SOD-323
pins: 1 C, 2 A

## DIODE-SOT23
designator D?, comment <b>Diode</b> / Standard reverse protection diodes and small signal diodes.
footprint SOT23-3
pins: 1 A, 3 C

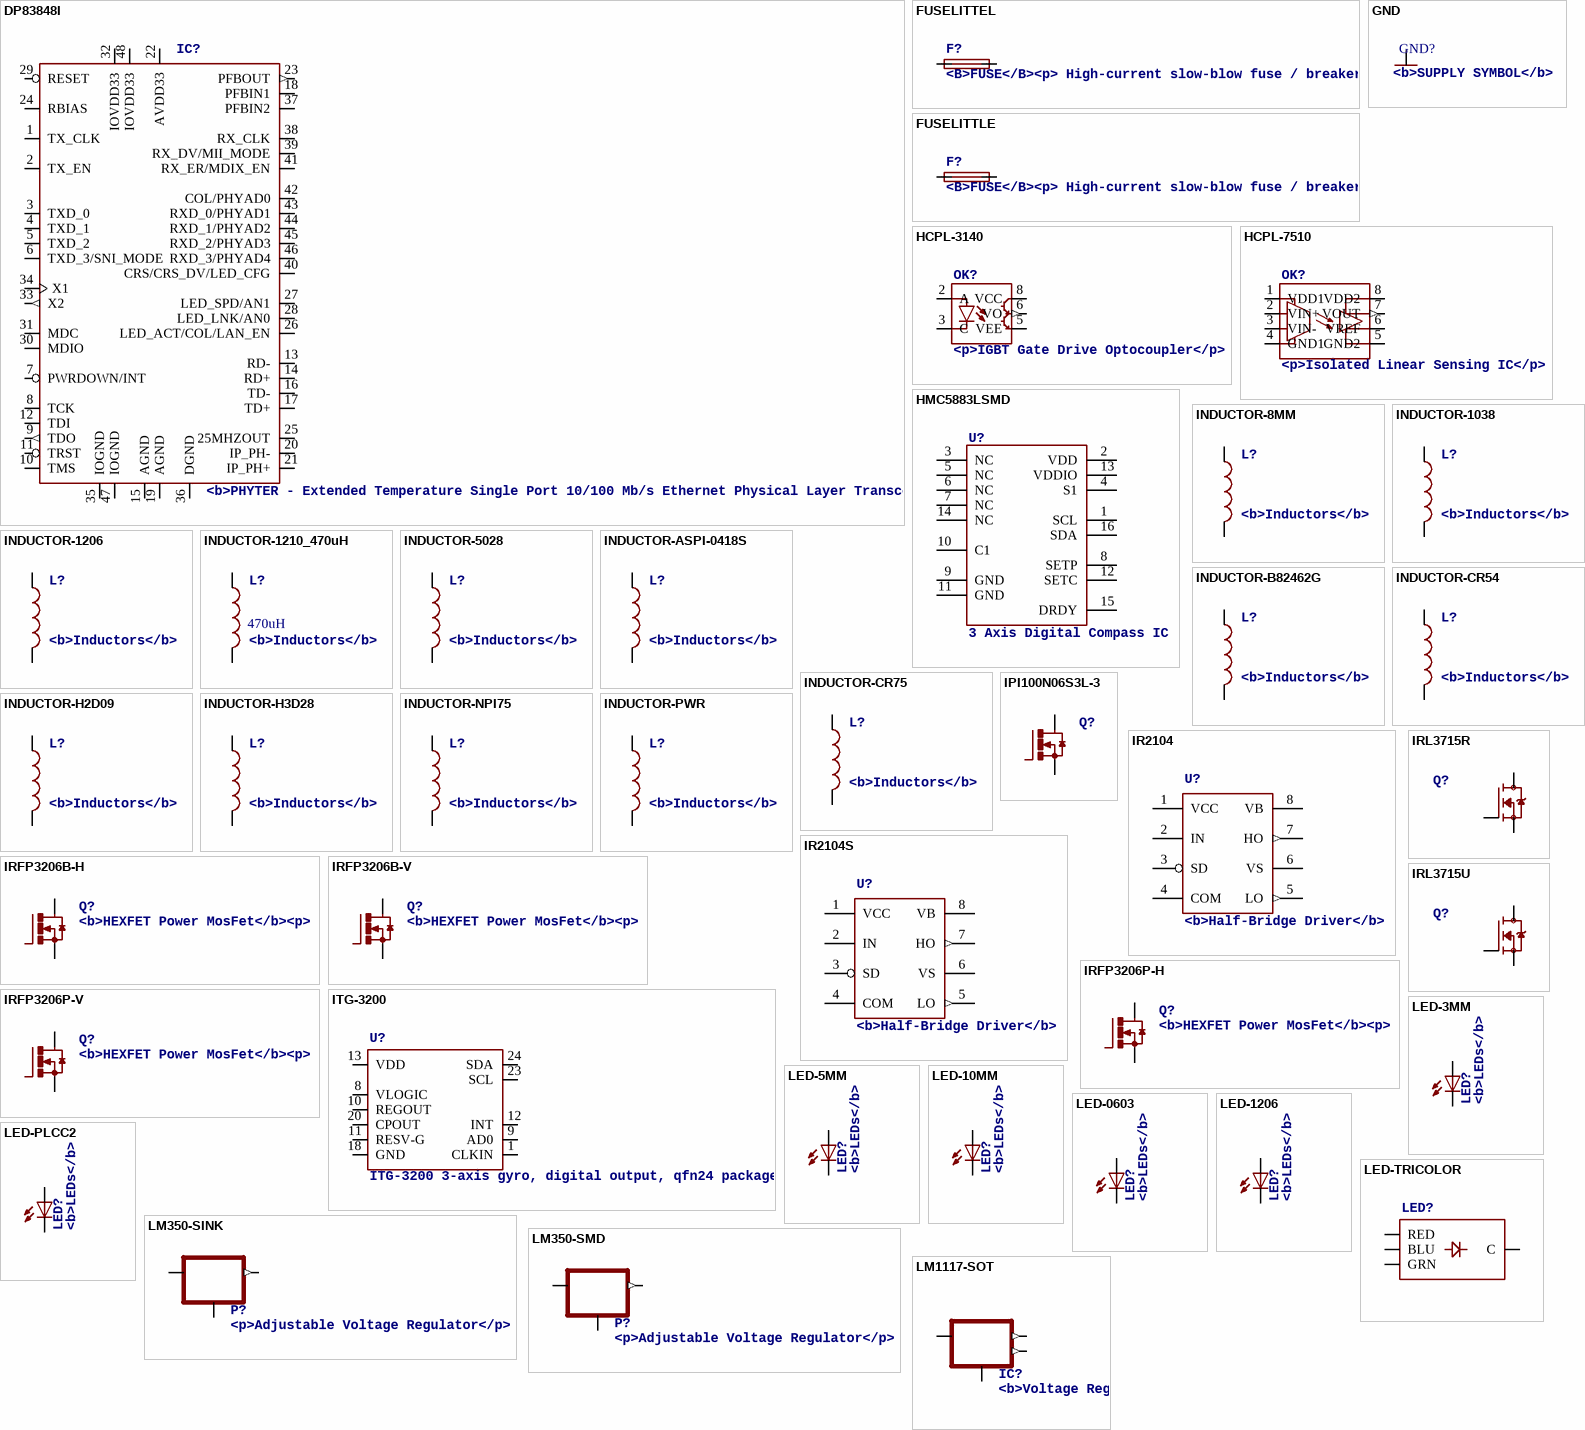
[diagram p5: symbols DP83848I to LM1117-SOT]

## DP83848I
designator IC?, comment <b>PHYTER - Extended Temperature Single Port 10/100 Mb/s Ethernet Physical Layer Transceiver</b> / <p>Source: http://www.national.com/ds/DP/DP83848VYB.pdf<\p>
MPN: DP83848VYB; OC_FARNELL: 1286817; OC_NEWARK: 11N4484
footprint LQFP48
pins: 1 TX_CLK, 2 TX_EN, 3 TXD_0, 4 TXD_1, 5 TXD_2, 6 TXD_3/SNI_MODE, 7 PWRDOWN/INT, 8 TCK, 9 TDO (out), 10 TMS, 11 TRST, 12 TDI, 13 RD-, 14 RD+, 15 AGND (power), 16 TD-, 17 TD+, 18 PFBIN1 (power), 19 AGND (power), 20 IP_PH-, 21 IP_PH+, 22 AVDD33 (power), 23 PFBOUT (out), 24 RBIAS, 25 25MHZOUT, 26 LED_ACT/COL/LAN_EN, 27 LED_SPD/AN1, 28 LED_LNK/AN0, 29 RESET, 30 MDIO, 31 MDC, 32 IOVDD33 (power), 33 X2 (out), 34 X1, 35 IOGND (power), 36 DGND (power), 37 PFBIN2 (power), 38 RX_CLK, 39 RX_DV/MII_MODE, 40 CRS/CRS_DV/LED_CFG, 41 RX_ER/MDIX_EN, 42 COL/PHYAD0, 43 RXD_0/PHYAD1, 44 RXD_1/PHYAD2, 45 RXD_2/PHYAD3, 46 RXD_3/PHYAD4, 47 IOGND (power), 48 IOVDD33 (power)

## FUSELITTEL
designator F?, comment <B>FUSE</B><p> / High-current slow-blow fuse / breaker
footprint MEGA298
pins: P$1 1, P$2 2

## FUSELITTLE
designator F?, comment <B>FUSE</B><p> / High-current slow-blow fuse / breaker
footprint LITTLEFUSE
pins: 1, 2

## GND
designator GND?, comment <b>SUPPLY SYMBOL</b>
pins: GND (oe)

## HCPL-3140
designator OK?, comment <p>IGBT Gate Drive Optocoupler</p>
footprint DIL08
pins: 2 A, 3 C, 5 VEE (power), 6 VO (out), 8 VCC (power)

## HCPL-7510
designator OK?, comment <p>Isolated Linear Sensing IC</p>
footprint DIL08
pins: 1 VDD1 (power), 2 VIN+, 3 VIN-, 4 GND1 (power), 5 GND2 (power), 6 VREF, 7 VOUT (out), 8 VDD2 (power)

## HMC5883LSMD
designator U?, comment 3 Axis Digital Compass IC
footprint 16LPCC
pins: 1 SCL, 2 VDD, 3 NC, 4 S1, 5 NC, 6 NC, 7 NC, 8 SETP, 9 GND, 10 C1, 11 GND, 12 SETC, 13 VDDIO, 14 NC, 15 DRDY, 16 SDA

## INDUCTOR-8MM
designator L?, comment <b>Inductors</b>
footprint 8MM
pins: P$1 1, P$2 2

## INDUCTOR-1038
designator L?, comment <b>Inductors</b>
footprint SRU1038
pins: 1, 2

## INDUCTOR-1206
designator L?, comment <b>Inductors</b>
footprint 1206-IND
pins: P$1 1, P$2 2

## INDUCTOR-1210_470uH
designator L?, comment <b>Inductors</b>  value 470uH
footprint 1210
pins: 1, 2

## INDUCTOR-5028
designator L?, comment <b>Inductors</b>
footprint SRU5028
pins: 1, 2

## INDUCTOR-ASPI-0418S
designator L?, comment <b>Inductors</b>
footprint ASPI-0418S
pins: 1, 2

## INDUCTOR-B82462G
designator L?, comment <b>Inductors</b>
footprint B82462G
pins: P$1 1, P$2 2

## INDUCTOR-CR54
designator L?, comment <b>Inductors</b>
footprint CR54
pins: P$1 1, P$2 2

## INDUCTOR-CR75
designator L?, comment <b>Inductors</b>
footprint CR75
pins: P$1 1, P$2 2

## INDUCTOR-H2D09
designator L?, comment <b>Inductors</b>
footprint CDRH2D09
pins: P$1 1, P$2 2

## INDUCTOR-H3D28
designator L?, comment <b>Inductors</b>
footprint CDRH3D28
pins: 1, 2

## INDUCTOR-NPI75
designator L?, comment <b>Inductors</b>
footprint NPI75C
pins: 1, 2

## INDUCTOR-PWR
designator L?, comment <b>Inductors</b>
footprint CDRH125
pins: 1, 2

## IPI100N06S3L-3
designator Q?
footprint TO262-H
pins: 1 G, 2 D, 3 S

## IR2104
designator U?, comment <b>Half-Bridge Driver</b>
footprint DIL08
pins: 1 VCC (power), 2 IN, 3 SD, 4 COM (power), 5 LO (out), 6 VS, 7 HO (out), 8 VB

## IR2104S
designator U?, comment <b>Half-Bridge Driver</b>
footprint SO08
pins: 1 VCC (power), 2 IN, 3 SD, 4 COM (power), 5 LO (out), 6 VS, 7 HO (out), 8 VB

## IRFP3206B-H
designator Q?, comment <b>HEXFET Power MosFet</b><p>
footprint TO220BH
pins: D@1 D, G, S

## IRFP3206B-V
designator Q?, comment <b>HEXFET Power MosFet</b><p>
footprint TO220BV
pins: D, G, S

## IRFP3206P-H
designator Q?, comment <b>HEXFET Power MosFet</b><p>
footprint TO247BH
pins: D@1 D, G, S

## IRFP3206P-V
designator Q?, comment <b>HEXFET Power MosFet</b><p>
footprint TO247BV
pins: D, G, S

## IRL3715R
designator Q?
footprint TO252
pins: 1 G, 2 D, 3 S

## IRL3715U
designator Q?
footprint TO251AA
pins: 1 G, 2 D, 3 S

## ITG-3200
designator U?, comment ITG-3200 3-axis gyro, digital output, qfn24 package
footprint QFN-24
pins: 1 CLKIN, 8 VLOGIC, 9 AD0, 10 REGOUT, 11 RESV-G, 12 INT, 13 VDD, 18 GND, 20 CPOUT, 23 SCL, 24 SDA

## LED-3MM
designator LED?, comment <b>LEDs</b> / Standard schematic elements and footprints for 5mm, 3mm, 1206, and 0603 sized LEDs and PLCC2 TOPLEDs
footprint LED3MM
pins: A, K C

## LED-5MM
designator LED?, comment <b>LEDs</b> / Standard schematic elements and footprints for 5mm, 3mm, 1206, and 0603 sized LEDs and PLCC2 TOPLEDs
footprint LED5MM
pins: A, K C

## LED-10MM
designator LED?, comment <b>LEDs</b> / Standard schematic elements and footprints for 5mm, 3mm, 1206, and 0603 sized LEDs and PLCC2 TOPLEDs
footprint LED10MM
pins: A, C

## LED-0603
designator LED?, comment <b>LEDs</b> / Standard schematic elements and footprints for 5mm, 3mm, 1206, and 0603 sized LEDs and PLCC2 TOPLEDs
footprint LED-0603
pins: A, C

## LED-1206
designator LED?, comment <b>LEDs</b> / Standard schematic elements and footprints for 5mm, 3mm, 1206, and 0603 sized LEDs and PLCC2 TOPLEDs
footprint LED-1206
pins: A, C

## LED-PLCC2
designator LED?, comment <b>LEDs</b> / Standard schematic elements and footprints for 5mm, 3mm, 1206, and 0603 sized LEDs and PLCC2 TOPLEDs
footprint PLCC2
pins: A, C

## LED-TRICOLOR
designator LED?
footprint LED-TRICOLOR
pins: BLU, GND C, GRN, RED

## LM350-SINK
designator P?, comment <p>Adjustable Voltage Regulator</p>
footprint TO220-ADJ
pins: ADJ, IN, OUT (out)

## LM350-SMD
designator P?, comment <p>Adjustable Voltage Regulator</p>
footprint SOT223
pins: 1 ADJ, 2 OUT (out), 3 IN

## LM1117-SOT
designator IC?, comment <b>Voltage Regulator LM1117</b> / Standard adjustable voltage regulator but in SMD form. Spark Fun Electronics SKU : COM-00595
footprint SOT223
pins: 1 ADJ, 2 OUT (out), 3 IN, 4 OUT (out)

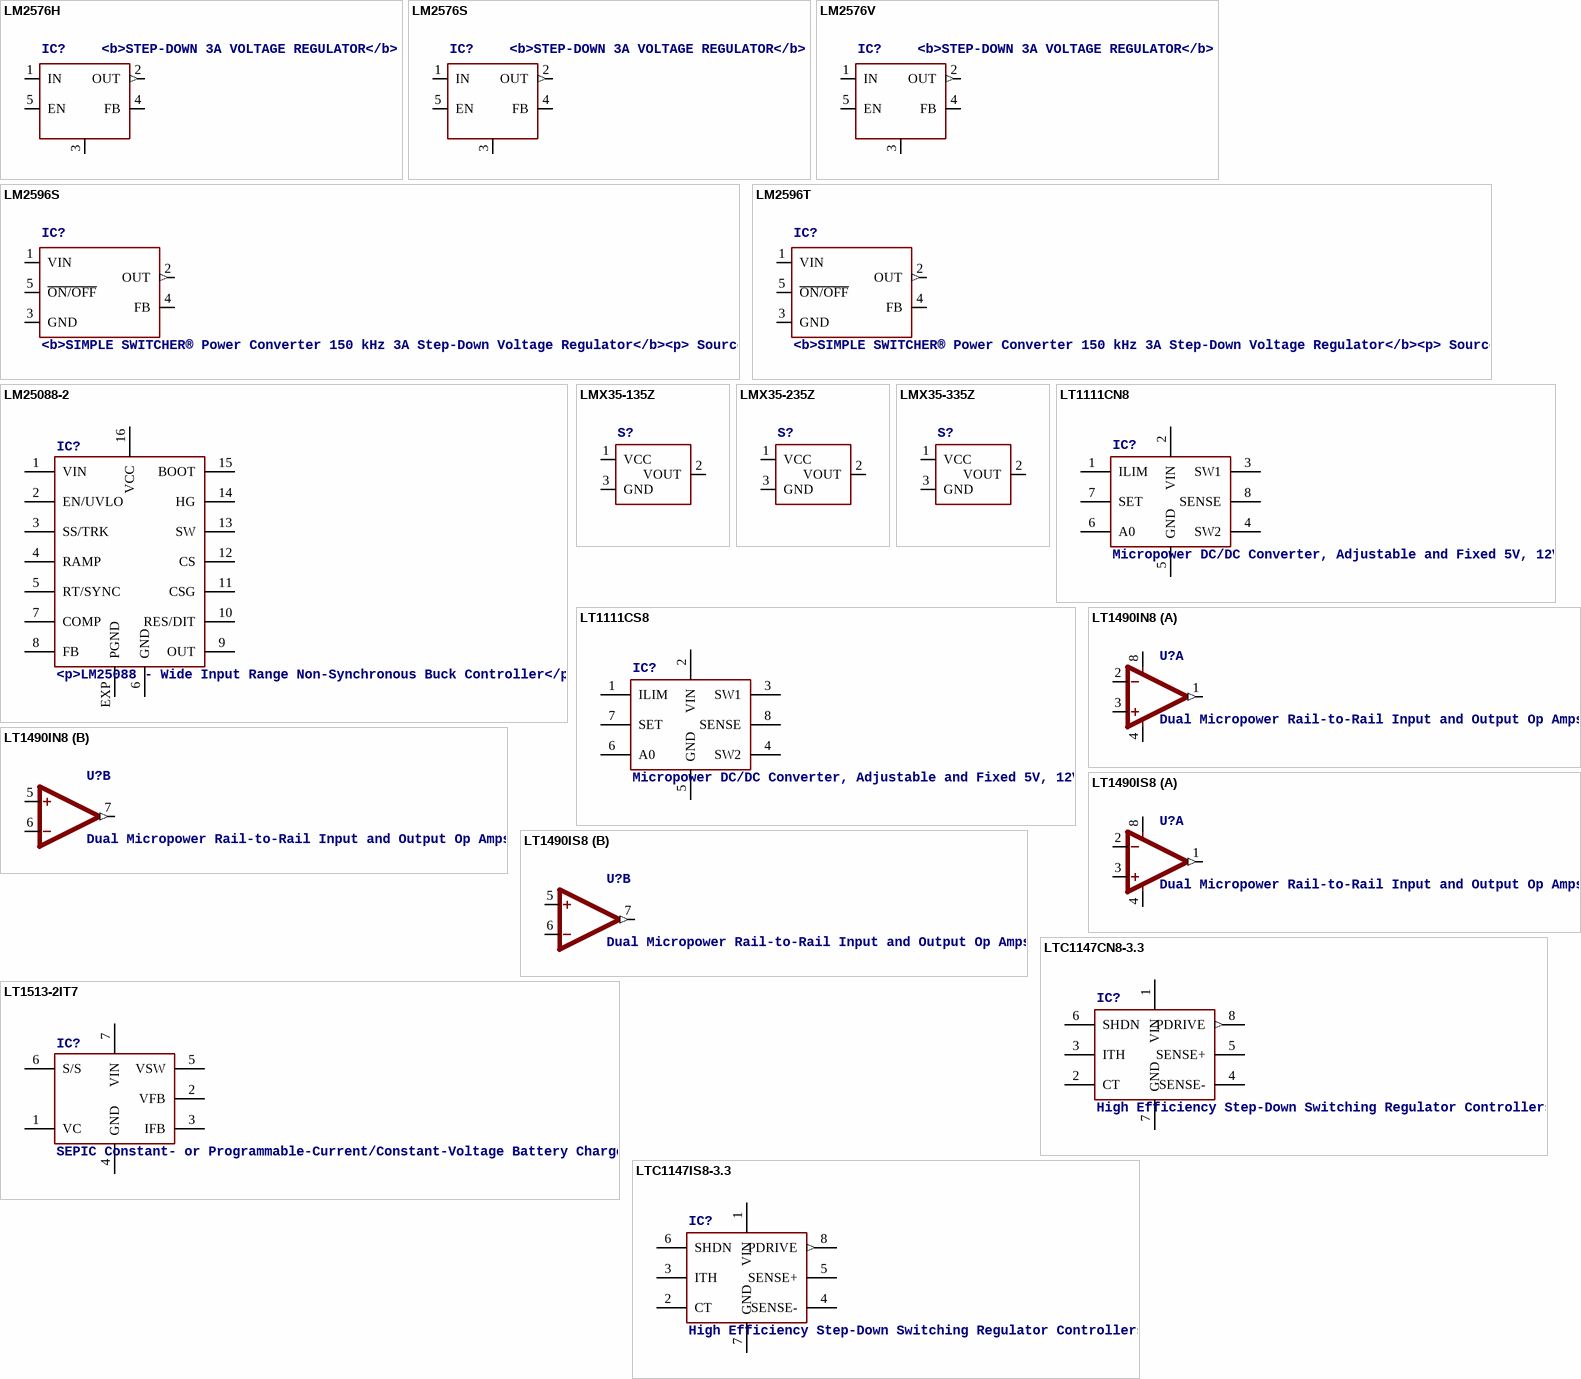
[diagram p6: symbols LM2576H to LTC1147IS8-3.3]

## LM2576H
designator IC?, comment <b>STEP-DOWN 3A VOLTAGE REGULATOR</b>
footprint TO220-5H
pins: 1 IN, 2 OUT (out), 3 GND (power), 4 FB, 5 EN

## LM2576S
designator IC?, comment <b>STEP-DOWN 3A VOLTAGE REGULATOR</b>
footprint TO263-5
pins: 1 IN, 2 OUT (out), 3 GND (power), 4 FB, 5 EN

## LM2576V
designator IC?, comment <b>STEP-DOWN 3A VOLTAGE REGULATOR</b>
footprint TO220-5V
pins: 1 IN, 2 OUT (out), 3 GND (power), 4 FB, 5 EN

## LM2596S
designator IC?, comment <b>SIMPLE SWITCHER® Power Converter 150 kHz 3A Step-Down Voltage Regulator</b><p> / Source: http://www.national.com/ds/LM/LM2596.pdf
MPN: LM2596S-ADJ/NOPB; MF: NATIONAL SEMICONDUCTOR; OC_FARNELL: 9494367; OC_NEWARK: 41K3842
footprint TO263-5
pins: 1 VIN, 2 OUT (out), 3 GND (power), 4 FB, 5 ~{ON/OFF}

## LM2596T
designator IC?, comment <b>SIMPLE SWITCHER® Power Converter 150 kHz 3A Step-Down Voltage Regulator</b><p> / Source: http://www.national.com/ds/LM/LM2596.pdf
MPN: LM2596T-ADJ/LF02; OC_FARNELL: 9494162; OC_NEWARK: 65K5910
footprint T05D
pins: 1 VIN, 2 OUT (out), 3 GND (power), 4 FB, 5 ~{ON/OFF}

## LM25088-2
designator IC?, comment <p>LM25088 - Wide Input Range Non-Synchronous Buck Controller</p>
footprint TSSOP16
pins: 1 VIN, 2 EN/UVLO, 3 SS/TRK, 4 RAMP, 5 RT/SYNC, 6 GND, 7 COMP, 8 FB, 9 OUT, 10 RES/DIT, 11 CSG, 12 CS, 13 SW, 14 HG, 15 BOOT, 16 VCC, EXP PGND

## LMX35-135Z
designator S?
footprint TO-92
pins: 1 VCC, 2 VOUT, 3 GND

## LMX35-235Z
designator S?
footprint TO-92
pins: 1 VCC, 2 VOUT, 3 GND

## LMX35-335Z
designator S?
footprint TO-92
pins: 1 VCC, 2 VOUT, 3 GND

## LT1111CN8
designator IC?, comment Micropower DC/DC Converter, Adjustable and Fixed 5V, 12V
footprint DIL08
pins: 1 ILIM, 2 VIN (power), 3 SW1, 4 SW2, 5 GND (power), 6 A0, 7 SET, 8 SENSE

## LT1111CS8
designator IC?, comment Micropower DC/DC Converter, Adjustable and Fixed 5V, 12V
footprint SO08
pins: 1 ILIM, 2 VIN (power), 3 SW1, 4 SW2, 5 GND (power), 6 A0, 7 SET, 8 SENSE

## LT1490IN8
designator U?, comment Dual Micropower Rail-to-Rail Input and Output Op Amps
footprint DIP08
part A pins: 1 OUT (out), 2 -IN, 3 +IN, 4 V- (power), 8 V+ (power)
part B pins: 5 +IN, 6 -IN, 7 OUT (out)

## LT1490IS8
designator U?, comment Dual Micropower Rail-to-Rail Input and Output Op Amps
footprint SO08
part A pins: 1 OUT (out), 2 -IN, 3 +IN, 4 V- (power), 8 V+ (power)
part B pins: 5 +IN, 6 -IN, 7 OUT (out)

## LT1513-2IT7
designator IC?, comment SEPIC Constant- or Programmable-Current/Constant-Voltage Battery Charger
footprint TO220-7
pins: 1 VC, 2 VFB, 3 IFB, 4 GND (power), 5 VSW, 6 S/S, 7 VIN (power)

## LTC1147CN8-3.3
designator IC?, comment High Efficiency Step-Down Switching Regulator Controllers
footprint DIL08
pins: 1 VIN (power), 2 CT, 3 ITH, 4 SENSE-, 5 SENSE+, 6 SHDN, 7 GND (power), 8 PDRIVE (out)

## LTC1147IS8-3.3
designator IC?, comment High Efficiency Step-Down Switching Regulator Controllers
footprint SO08
pins: 1 VIN (power), 2 CT, 3 ITH, 4 SENSE-, 5 SENSE+, 6 SHDN, 7 GND (power), 8 PDRIVE (out)

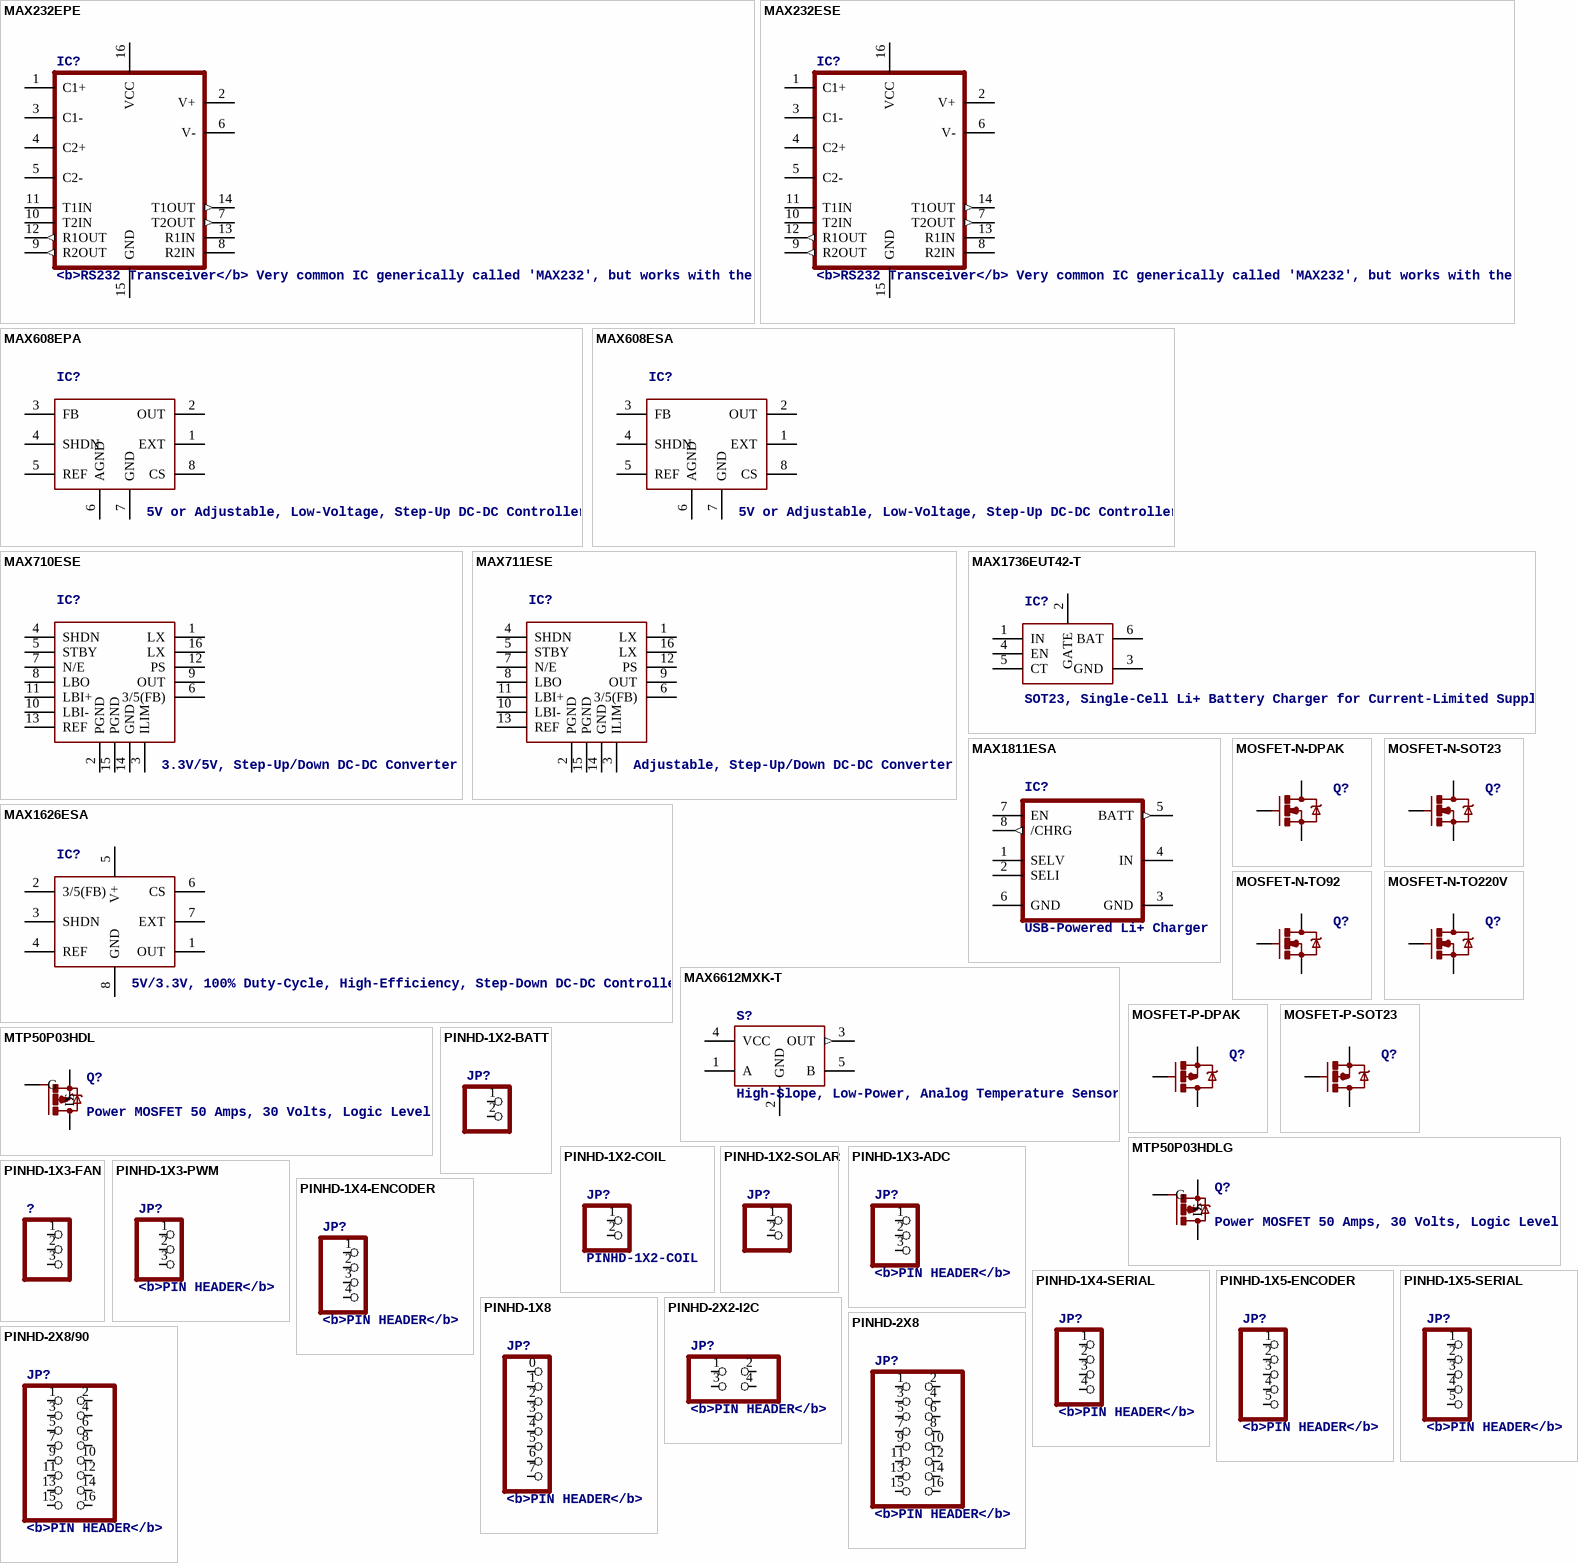
[diagram p7: symbols MAX232EPE to PINHD-2X8/90]

## MAX232EPE
designator IC?, comment <b>RS232 Transceiver</b> / Very common IC generically called 'MAX232', but works with the 3V equivalent MAX3232 ICs.
footprint DIL16
pins: 1 C1+, 2 V+, 3 C1-, 4 C2+, 5 C2-, 6 V-, 7 T2OUT (out), 8 R2IN, 9 R2OUT (out), 10 T2IN, 11 T1IN, 12 R1OUT (out), 13 R1IN, 14 T1OUT (out), 15 GND, 16 VCC

## MAX232ESE
designator IC?, comment <b>RS232 Transceiver</b> / Very common IC generically called 'MAX232', but works with the 3V equivalent MAX3232 ICs.
footprint SO016
pins: 1 C1+, 2 V+, 3 C1-, 4 C2+, 5 C2-, 6 V-, 7 T2OUT (out), 8 R2IN, 9 R2OUT (out), 10 T2IN, 11 T1IN, 12 R1OUT (out), 13 R1IN, 14 T1OUT (out), 15 GND, 16 VCC

## MAX608EPA
designator IC?, comment 5V or Adjustable, Low-Voltage, Step-Up DC-DC Controller
footprint DIL08
pins: 1 EXT, 2 OUT, 3 FB, 4 SHDN, 5 REF, 6 AGND, 7 GND, 8 CS

## MAX608ESA
designator IC?, comment 5V or Adjustable, Low-Voltage, Step-Up DC-DC Controller
footprint SO08
pins: 1 EXT, 2 OUT, 3 FB, 4 SHDN, 5 REF, 6 AGND, 7 GND, 8 CS

## MAX710ESE
designator IC?, comment 3.3V/5V, Step-Up/Down DC-DC Converter
footprint SO16
pins: 1 LX, 2 PGND, 3 ILIM, 4 SHDN, 5 STBY, 6 3/5(FB), 7 N/E, 8 LBO, 9 OUT, 10 LBI-, 11 LBI+, 12 PS, 13 REF, 14 GND, 15 PGND, 16 LX

## MAX711ESE
designator IC?, comment Adjustable, Step-Up/Down DC-DC Converter
footprint SO16
pins: 1 LX, 2 PGND, 3 ILIM, 4 SHDN, 5 STBY, 6 3/5(FB), 7 N/E, 8 LBO, 9 OUT, 10 LBI-, 11 LBI+, 12 PS, 13 REF, 14 GND, 15 PGND, 16 LX

## MAX1626ESA
designator IC?, comment 5V/3.3V, 100% Duty-Cycle, High-Efficiency, Step-Down DC-DC Controller
footprint SO08
pins: 1 OUT, 2 3/5(FB), 3 SHDN, 4 REF, 5 V+, 6 CS, 7 EXT, 8 GND

## MAX1736EUT42-T
designator IC?, comment SOT23, Single-Cell Li+ Battery Charger for Current-Limited Supply
footprint SOT23-6
pins: 1 IN, 2 GATE, 3 GND, 4 EN, 5 CT, 6 BAT

## MAX1811ESA
designator IC?, comment USB-Powered Li+ Charger
footprint SO08
pins: 1 SELV, 2 SELI, 3 GND (power), 4 IN (power), 5 BATT (out), 6 GND (power), 7 EN, 8 /CHRG (out)

## MAX6612MXK-T
designator S?, comment High-Slope, Low-Power, Analog Temperature Sensor
footprint SC70-5
pins: 1 A, 2 GND (power), 3 OUT (out), 4 VCC (power), 5 B

## MOSFET-N-DPAK
designator Q?
footprint DPAK
pins: 1 G, 3 S, 4 D

## MOSFET-N-SOT23
designator Q?
footprint SOT23-3
pins: 1 G, 2 S, 3 D

## MOSFET-N-TO92
designator Q?
footprint TO-92
pins: 1 D, 2 S, 3 G

## MOSFET-N-TO220V
designator Q?
footprint TO220BV
pins: D, G, S

## MOSFET-P-DPAK
designator Q?
footprint DPAK
pins: 1 G, 3 S, 4 D

## MOSFET-P-SOT23
designator Q?
footprint SOT23-3
pins: 1 G, 2 S, 3 D

## MTP50P03HDL
designator Q?, comment Power MOSFET / 50 Amps, 30 Volts, Logic Level
footprint TO220BH
pins: D@1 D, G, S

## MTP50P03HDLG
designator Q?, comment Power MOSFET / 50 Amps, 30 Volts, Logic Level
footprint TO220BV
pins: D, G, S

## PINHD-1X2-BATT
designator JP?
footprint HEADER-1X2-BATT
pins: 1, 2

## PINHD-1X2-COIL
designator JP?
footprint HEADER-1X2-COIL
pins: 1, 2

## PINHD-1X2-SOLAR
designator JP?
footprint HEADER-1X2-SOL
pins: 1, 2

## PINHD-1X3-ADC
designator JP?, comment <b>PIN HEADER</b>
footprint HEADER-1X3-ADC
pins: 1, 2, 3

## PINHD-1X3-FAN
designator ?
footprint HEADER-1X3-FAN
pins: 1, 2, 3

## PINHD-1X3-PWM
designator JP?, comment <b>PIN HEADER</b>
footprint HEADER-1X3-PWM
pins: 1, 2, 3

## PINHD-1X4-ENCODER
designator JP?, comment <b>PIN HEADER</b>
footprint HEADER-1X4-ENC
pins: 1, 2, 3, 4

## PINHD-1X4-SERIAL
designator JP?, comment <b>PIN HEADER</b>
footprint HEADER-1X4-SER
pins: 1, 2, 3, 4

## PINHD-1X5-ENCODER
designator JP?, comment <b>PIN HEADER</b>
footprint HEADER-1X5-ENC
pins: 1, 2, 3, 4, 5

## PINHD-1X5-SERIAL
designator JP?, comment <b>PIN HEADER</b>
footprint HEADER-1X5-SER
pins: 1, 2, 3, 4, 5

## PINHD-1X8
designator JP?, comment <b>PIN HEADER</b>
footprint HEADER-1X8
pins: 0 1, 1 2, 2 3, 3 4, 4 5, 5 6, 6 7, 7 8

## PINHD-2X2-I2C
designator JP?, comment <b>PIN HEADER</b>
footprint HEADER-2X2-I2C
pins: 1, 2, 3, 4

## PINHD-2X8
designator JP?, comment <b>PIN HEADER</b>
footprint HEADER-2X8
pins: 1, 2, 3, 4, 5, 6, 7, 8, 9, 10, 11, 12, 13, 14, 15, 16

## PINHD-2X8/90
designator JP?, comment <b>PIN HEADER</b>
footprint HEADER-2X8/90
pins: 1, 2, 3, 4, 5, 6, 7, 8, 9, 10, 11, 12, 13, 14, 15, 16

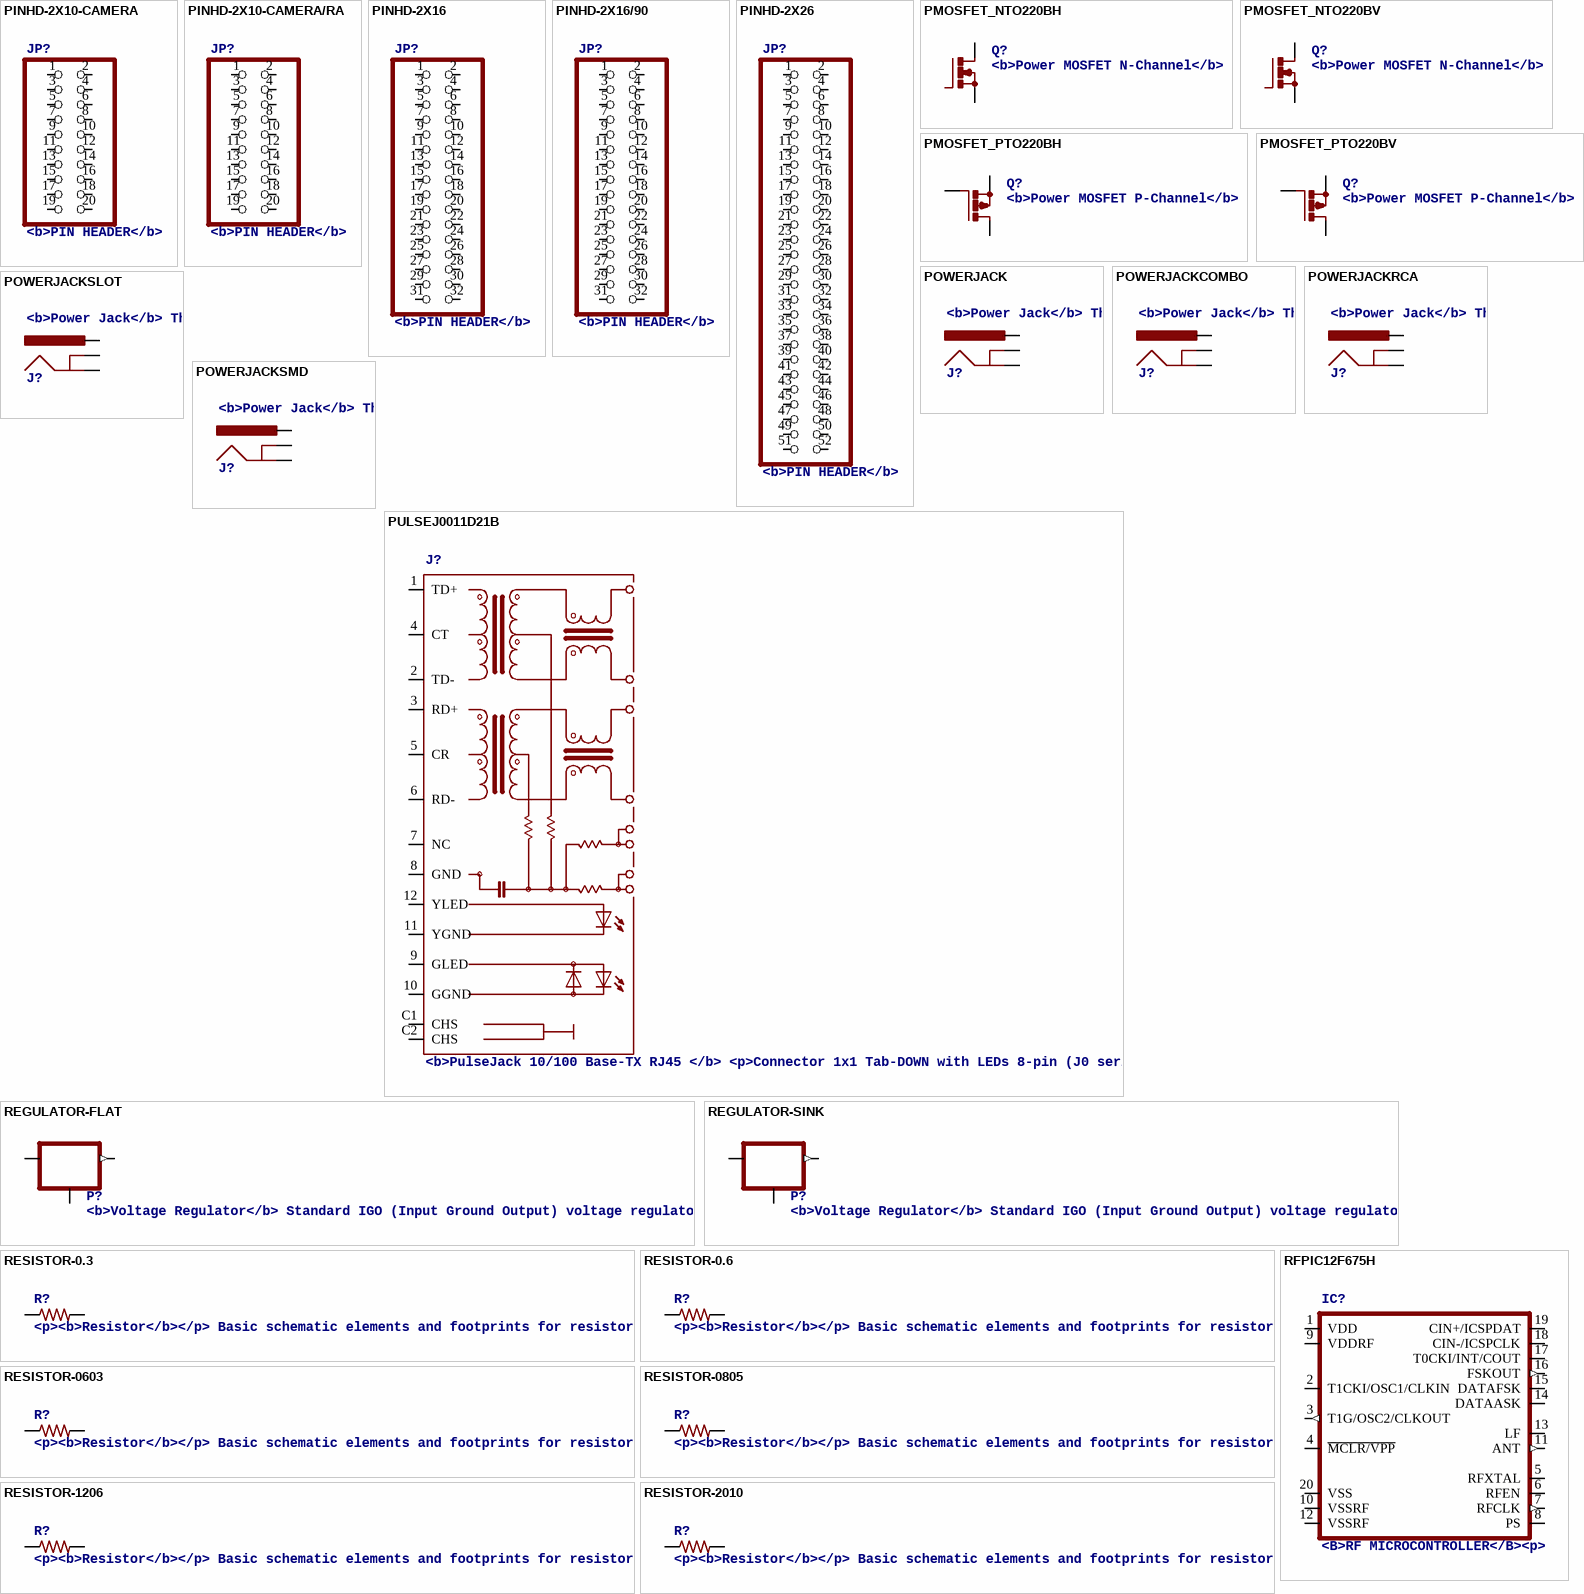
[diagram p8: symbols PINHD-2X10-CAMERA to RFPIC12F675H]

## PINHD-2X10-CAMERA
designator JP?, comment <b>PIN HEADER</b>
footprint HEADER-2X10-CAMERA
pins: 1, 2, 3, 4, 5, 6, 7, 8, 9, 10, 11, 12, 13, 14, 15, 16, 17, 18, 19, 20

## PINHD-2X10-CAMERA/RA
designator JP?, comment <b>PIN HEADER</b>
footprint HEADER-2X10/90
pins: 1, 2, 3, 4, 5, 6, 7, 8, 9, 10, 11, 12, 13, 14, 15, 16, 17, 18, 19, 20

## PINHD-2X16
designator JP?, comment <b>PIN HEADER</b>
footprint HEADER-2X16
pins: 1, 2, 3, 4, 5, 6, 7, 8, 9, 10, 11, 12, 13, 14, 15, 16, 17, 18, 19, 20, 21, 22, 23, 24, 25, 26, 27, 28, 29, 30, 31, 32

## PINHD-2X16/90
designator JP?, comment <b>PIN HEADER</b>
footprint HEADER-2X16/90
pins: 1, 2, 3, 4, 5, 6, 7, 8, 9, 10, 11, 12, 13, 14, 15, 16, 17, 18, 19, 20, 21, 22, 23, 24, 25, 26, 27, 28, 29, 30, 31, 32

## PINHD-2X26
designator JP?, comment <b>PIN HEADER</b>
footprint HEADER-2X26
pins: 1, 2, 3, 4, 5, 6, 7, 8, 9, 10, 11, 12, 13, 14, 15, 16, 17, 18, 19, 20, 21, 22, 23, 24, 25, 26, 27, 28, 29, 30, 31, 32, 33, 34, 35, 36, 37, 38, 39, 40, 41, 42, 43, 44, 45, 46, 47, 48, 49, 50, 51, 52

## PMOSFET_NTO220BH
designator Q?, comment <b>Power MOSFET N-Channel</b>
footprint TO220BH
pins: D@1 D, G, S

## PMOSFET_NTO220BV
designator Q?, comment <b>Power MOSFET N-Channel</b>
footprint TO220BV
pins: D, G, S

## PMOSFET_PTO220BH
designator Q?, comment <b>Power MOSFET P-Channel</b>
footprint TO220BH
pins: D@1 D, G, S

## PMOSFET_PTO220BV
designator Q?, comment <b>Power MOSFET P-Channel</b>
footprint TO220BV
pins: D, G, S

## POWERJACK
designator J?, comment <b>Power Jack</b> / This is the standard 5.5mm barrel jack for power.  Center pin should be 2.1mm.  The Slot footprint only works if the mill layer is transmitted to the PCB fab house.
footprint POWER_JACK_PTH
pins: GND, GNDBREAK, PWR

## POWERJACKCOMBO
designator J?, comment <b>Power Jack</b> / This is the standard 5.5mm barrel jack for power.  Center pin should be 2.1mm.  The Slot footprint only works if the mill layer is transmitted to the PCB fab house.
footprint POWER_JACK_COMBO
pins: GND GNDBREAK, GND@1 GND, POWER PWR

## POWERJACKRCA
designator J?, comment <b>Power Jack</b> / This is the standard 5.5mm barrel jack for power.  Center pin should be 2.1mm.  The Slot footprint only works if the mill layer is transmitted to the PCB fab house.
footprint RCA
pins: BARREL GND, BREAK PWR, SPRING GNDBREAK

## POWERJACKSLOT
designator J?, comment <b>Power Jack</b> / This is the standard 5.5mm barrel jack for power.  Center pin should be 2.1mm.  The Slot footprint only works if the mill layer is transmitted to the PCB fab house.
footprint POWER_JACK_SLOT
pins: GND@1 GNDBREAK, GND@2 GND, PWR

## POWERJACKSMD
designator J?, comment <b>Power Jack</b> / This is the standard 5.5mm barrel jack for power.  Center pin should be 2.1mm.  The Slot footprint only works if the mill layer is transmitted to the PCB fab house.
footprint POWER_JACK_SMD
pins: GND GNDBREAK, P$4 GND, VIN0 PWR

## PULSEJ0011D21B
designator J?, comment <b>PulseJack 10/100 Base-TX RJ45 </b> / <p>Connector 1x1 Tab-DOWN with LEDs 8-pin (J0 series) integrated magnetics connector (ICM), designed to support applications, such as SOHO / (ADSL modems), LAN-on-Motherboard (LOM), Hub and Switches.</p>
footprint PULSEJ0-B
pins: 1 TD+, 2 TD-, 3 RD+, 4 CT, 5 CR, 6 RD-, 7 NC, 8 GND, 9 GLED, 10 GGND, 11 YGND, 12 YLED, C1 CHS, C2 CHS

## REGULATOR-FLAT
designator P?, comment <b>Voltage Regulator</b> / Standard IGO (Input Ground Output) voltage regulator.
footprint TO220BH
pins: D@1 GND, G IN, S OUT (out)

## REGULATOR-SINK
designator P?, comment <b>Voltage Regulator</b> / Standard IGO (Input Ground Output) voltage regulator.
footprint TO220HS
pins: GND, IN, OUT (out)

## RESISTOR-0.3
designator R?, comment <p><b>Resistor</b></p> / Basic schematic elements and footprints for resistors.
footprint AXIAL-0.3
pins: P$1 1, P$2 2

## RESISTOR-0.6
designator R?, comment <p><b>Resistor</b></p> / Basic schematic elements and footprints for resistors.
footprint AXIAL-0.6
pins: P$1 1, P$2 2

## RESISTOR-0603
designator R?, comment <p><b>Resistor</b></p> / Basic schematic elements and footprints for resistors.
footprint 0603-RES
pins: 1, 2

## RESISTOR-0805
designator R?, comment <p><b>Resistor</b></p> / Basic schematic elements and footprints for resistors.
footprint 0805-RES
pins: 1, 2

## RESISTOR-1206
designator R?, comment <p><b>Resistor</b></p> / Basic schematic elements and footprints for resistors.
footprint 1206-RES
pins: 1, 2

## RESISTOR-2010
designator R?, comment <p><b>Resistor</b></p> / Basic schematic elements and footprints for resistors.
footprint 2010
pins: 1, 2

## RFPIC12F675H
designator IC?, comment <B>RF MICROCONTROLLER</B><p>
footprint SSOP20
pins: 1 VDD (power), 2 T1CKI/OSC1/CLKIN, 3 T1G/OSC2/CLKOUT (out), 4 ~{MCLR/VPP}, 5 RFXTAL, 6 RFEN, 7 RFCLK (out), 8 PS, 9 VDDRF (power), 10 VSSRF (power), 11 ANT (out), 12 VSSRF (power), 13 LF, 14 DATAASK, 15 DATAFSK, 16 FSKOUT (out), 17 T0CKI/INT/COUT, 18 CIN-/ICSPCLK, 19 CIN+/ICSPDAT, 20 VSS (power)

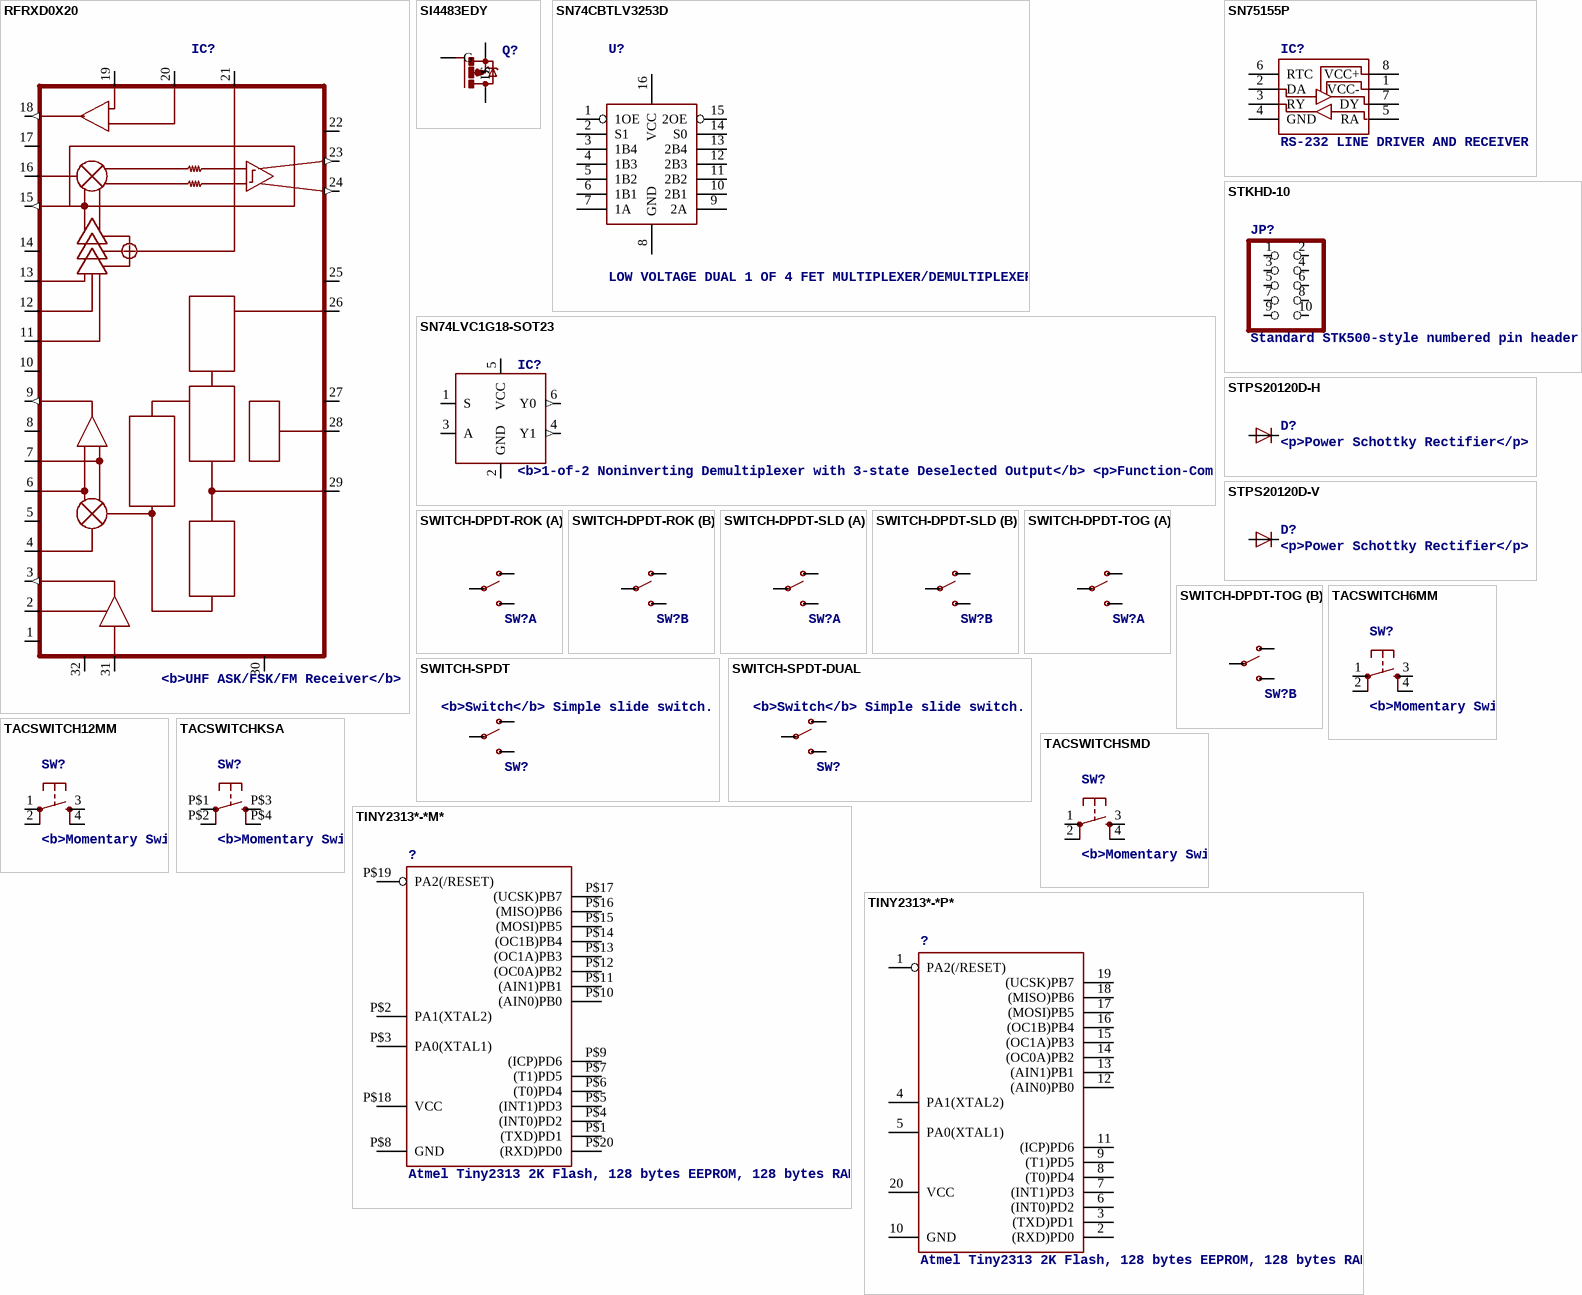
[diagram p9: symbols RFRXD0X20 to TINY2313*-*P*]

## RFRXD0X20
designator IC?, comment <b>UHF ASK/FSK/FM Receiver</b>
footprint LQFP-32
pins: 1 VSS (power), 2 LNAGAIN, 3 LNAOUT (out), 4 1IFIN, 5 VSS (power), 6 1IF+, 7 1IF-, 8 VDD (power), 9 1IFOUT (out), 10 VSS (power), 11 2IFIN, 12 FBC1, 13 FBC2, 14 VDD (power), 15 2IFOUT (out), 16 DEMIN, 17 VDD (power), 18 OPA (out), 19 OPA-, 20 OPA+, 21 RSSI, 22 VSS, 23 DEMOUT+ (out), 24 DEMOUT- (out), 25 VSS (power), 26 XTAL, 27 VDD (power), 28 ENRX, 29 LF, 30 VSS (power), 31 LNAIN, 32 VDD (power)

## SI4483EDY
designator Q?
footprint SO08
pins: 1 S, 4 G, 5 D

## SN74CBTLV3253D
designator U?, comment LOW VOLTAGE DUAL 1 OF 4 FET MULTIPLEXER/DEMULTIPLEXER
footprint SO16
pins: 1 1OE, 2 S1, 3 1B4, 4 1B3, 5 1B2, 6 1B1, 7 1A, 8 GND (power), 9 2A, 10 2B1, 11 2B2, 12 2B3, 13 2B4, 14 S0, 15 2OE, 16 VCC (power)

## SN74LVC1G18-SOT23
designator IC?, comment <b>1-of-2 Noninverting Demultiplexer with 3-state Deselected Output</b> / <p>Function-Compatible with SN74AUC1G19 Decoder/Demultiplexer (for High Deselected Output)<p>
footprint SOT23-6
pins: 1 S, 2 GND (power), 3 A, 4 Y1 (out), 5 VCC (power), 6 Y0 (out)

## SN75155P
designator IC?, comment RS-232 LINE DRIVER AND RECEIVER
footprint DIL08
pins: 1 VCC-, 2 DA, 3 RY, 4 GND, 5 RA, 6 RTC, 7 DY, 8 VCC+

## STKHD-10
designator JP?, comment Standard STK500-style numbered pin header
footprint HEADER-2X5-STK
pins: 1, 2, 3, 4, 5, 6, 7, 8, 9, 10

## STPS20120D-H
designator D?, comment <p>Power Schottky Rectifier</p>
footprint TO220ACH
pins: A, C

## STPS20120D-V
designator D?, comment <p>Power Schottky Rectifier</p>
footprint TO220ACV
pins: A, C

## SWITCH-DPDT-ROK
designator SW?
footprint SWITCH-DPDT-ROK
part A pins: 1 O, 2 P, 3 S
part B pins: 4 O, 5 P, 6 S

## SWITCH-DPDT-SLD
designator SW?
footprint SWITCH-DPDT-SLD
part A pins: 1 O, 2 P, 3 S
part B pins: 4 O, 5 P, 6 S

## SWITCH-DPDT-TOG
designator SW?
footprint SWITCH-DPDT
part A pins: 1 O, 2 P, 3 S
part B pins: 4 O, 5 P, 6 S

## SWITCH-SPDT
designator SW?, comment <b>Switch</b> / Simple slide switch.
footprint SWITCH-SPDT
pins: 1 O, 2 P, 3 S

## SWITCH-SPDT-DUAL
designator SW?, comment <b>Switch</b> / Simple slide switch.
footprint SWITCH-DPDT
pins: 1 O, 2 P, 3 S

## TACSWITCH6MM
designator SW?, comment <b>Momentary Switch</b> / Button commonly used for reset or general input.
footprint TAC-6MM
pins: 1, 2, 3, 4

## TACSWITCH12MM
designator SW?, comment <b>Momentary Switch</b> / Button commonly used for reset or general input.
footprint TAC-12MM
pins: 1, 2, 3, 4

## TACSWITCHKSA
designator SW?, comment <b>Momentary Switch</b> / Button commonly used for reset or general input.
footprint TAC-KSA-SEALED
pins: P$1 1, P$2 2, P$3 3, P$4 4

## TACSWITCHSMD
designator SW?, comment <b>Momentary Switch</b> / Button commonly used for reset or general input.
footprint TAC-SMD
pins: 1, 2, 3, 4

## TINY2313*-*M*
designator ?, comment Atmel Tiny2313 / 2K Flash, 128 bytes EEPROM, 128 bytes RAM
footprint MLF20
pins: P$1 (TXD)PD1, P$2 PA1(XTAL2), P$3 PA0(XTAL1), P$4 (INT0)PD2, P$5 (INT1)PD3, P$6 (T0)PD4, P$7 (T1)PD5, P$8 GND (power), P$9 (ICP)PD6, P$10 (AIN0)PB0, P$11 (AIN1)PB1, P$12 (OC0A)PB2, P$13 (OC1A)PB3, P$14 (OC1B)PB4, P$15 (MOSI)PB5, P$16 (MISO)PB6, P$17 (UCSK)PB7, P$18 VCC (power), P$19 PA2(/RESET), P$20 (RXD)PD0

## TINY2313*-*P*
designator ?, comment Atmel Tiny2313 / 2K Flash, 128 bytes EEPROM, 128 bytes RAM
footprint DIL20
pins: 1 PA2(/RESET), 2 (RXD)PD0, 3 (TXD)PD1, 4 PA1(XTAL2), 5 PA0(XTAL1), 6 (INT0)PD2, 7 (INT1)PD3, 8 (T0)PD4, 9 (T1)PD5, 10 GND (power), 11 (ICP)PD6, 12 (AIN0)PB0, 13 (AIN1)PB1, 14 (OC0A)PB2, 15 (OC1A)PB3, 16 (OC1B)PB4, 17 (MOSI)PB5, 18 (MISO)PB6, 19 (UCSK)PB7, 20 VCC (power)

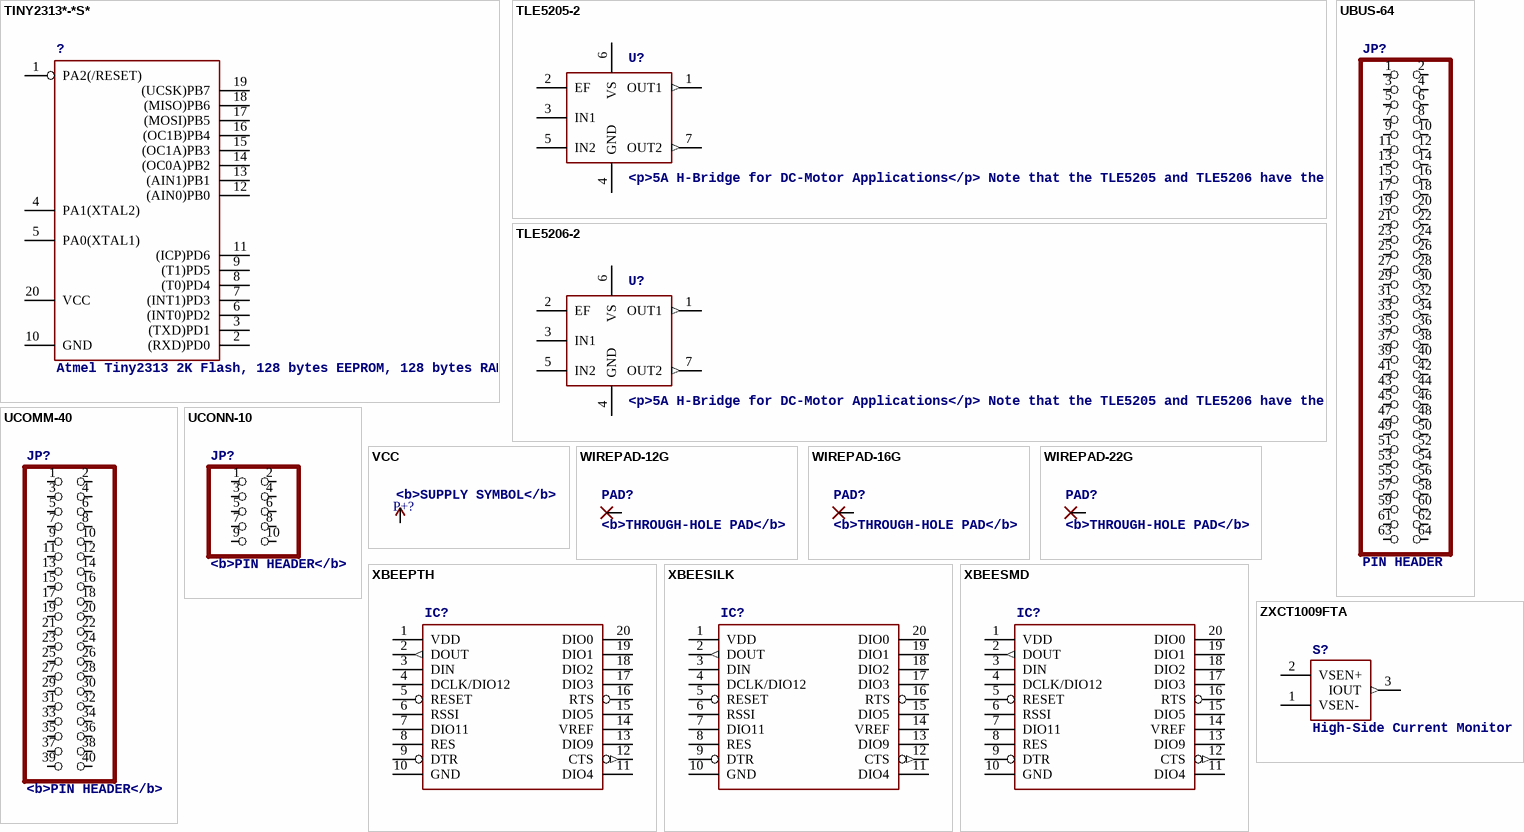
[diagram p10: symbols TINY2313*-*S* to ZXCT1009FTA]

## TINY2313*-*S*
designator ?, comment Atmel Tiny2313 / 2K Flash, 128 bytes EEPROM, 128 bytes RAM
footprint SO20L$
pins: 1 PA2(/RESET), 2 (RXD)PD0, 3 (TXD)PD1, 4 PA1(XTAL2), 5 PA0(XTAL1), 6 (INT0)PD2, 7 (INT1)PD3, 8 (T0)PD4, 9 (T1)PD5, 10 GND (power), 11 (ICP)PD6, 12 (AIN0)PB0, 13 (AIN1)PB1, 14 (OC0A)PB2, 15 (OC1A)PB3, 16 (OC1B)PB4, 17 (MOSI)PB5, 18 (MISO)PB6, 19 (UCSK)PB7, 20 VCC (power)

## TLE5205-2
designator U?, comment <p>5A H-Bridge for DC-Motor Applications</p> / Note that the TLE5205 and TLE5206 have the same pinout but different input truth tables.
footprint TO220-7
pins: 1 OUT1 (out), 2 EF, 3 IN1, 4 GND (power), 5 IN2, 6 VS (power), 7 OUT2 (out)

## TLE5206-2
designator U?, comment <p>5A H-Bridge for DC-Motor Applications</p> / Note that the TLE5205 and TLE5206 have the same pinout but different input truth tables.
footprint TO220-7
pins: 1 OUT1 (out), 2 EF, 3 IN1, 4 GND (power), 5 IN2, 6 VS (power), 7 OUT2 (out)

## UBUS-64
designator JP?, comment PIN HEADER
footprint HEADER-2X32
pins: 1, 2, 3, 4, 5, 6, 7, 8, 9, 10, 11, 12, 13, 14, 15, 16, 17, 18, 19, 20, 21, 22, 23, 24, 25, 26, 27, 28, 29, 30, 31, 32, 33, 34, 35, 36, 37, 38, 39, 40, 41, 42, 43, 44, 45, 46, 47, 48, 49, 50, 51, 52, 53, 54, 55, 56, 57, 58, 59, 60, 61, 62, 63, 64

## UCOMM-40
designator JP?, comment <b>PIN HEADER</b>
footprint HEADER-2X20
pins: 1, 2, 3, 4, 5, 6, 7, 8, 9, 10, 11, 12, 13, 14, 15, 16, 17, 18, 19, 20, 21, 22, 23, 24, 25, 26, 27, 28, 29, 30, 31, 32, 33, 34, 35, 36, 37, 38, 39, 40

## UCONN-10
designator JP?, comment <b>PIN HEADER</b>
footprint HEADER-2X5
pins: 1, 2, 3, 4, 5, 6, 7, 8, 9, 10

## VCC
designator P+?, comment <b>SUPPLY SYMBOL</b>
pins: VCC (oe)

## WIREPAD-12G
designator PAD?, comment <b>THROUGH-HOLE PAD</b>
footprint PAD-12G
pins: 1 P

## WIREPAD-16G
designator PAD?, comment <b>THROUGH-HOLE PAD</b>
footprint PAD-16G
pins: 1 P

## WIREPAD-22G
designator PAD?, comment <b>THROUGH-HOLE PAD</b>
footprint PAD-22G
pins: 1 P

## XBEEPTH
designator IC?
footprint XBEE-PTH
pins: 1 VDD (power), 2 DOUT (out), 3 DIN, 4 DCLK/DIO12, 5 RESET, 6 RSSI, 7 DIO11, 8 RES, 9 DTR, 10 GND (power), 11 DIO4, 12 CTS (out), 13 DIO9, 14 VREF, 15 DIO5, 16 RTS, 17 DIO3, 18 DIO2, 19 DIO1, 20 DIO0

## XBEESILK
designator IC?
footprint XBEE-SILK
pins: 1 VDD (power), 2 DOUT (out), 3 DIN, 4 DCLK/DIO12, 5 RESET, 6 RSSI, 7 DIO11, 8 RES, 9 DTR, 10 GND (power), 11 DIO4, 12 CTS (out), 13 DIO9, 14 VREF, 15 DIO5, 16 RTS, 17 DIO3, 18 DIO2, 19 DIO1, 20 DIO0

## XBEESMD
designator IC?
footprint XBEE-SMD
pins: 1 VDD (power), 2 DOUT (out), 3 DIN, 4 DCLK/DIO12, 5 RESET, 6 RSSI, 7 DIO11, 8 RES, 9 DTR, 10 GND (power), 11 DIO4, 12 CTS (out), 13 DIO9, 14 VREF, 15 DIO5, 16 RTS, 17 DIO3, 18 DIO2, 19 DIO1, 20 DIO0

## ZXCT1009FTA
designator S?, comment High-Side Current Monitor
footprint SOT23
pins: 1 VSEN-, 2 VSEN+, 3 IOUT (out)